# Altium schematic symbol library OpAmp比较器.SchLib: 515 symbols (part 4 of 5)
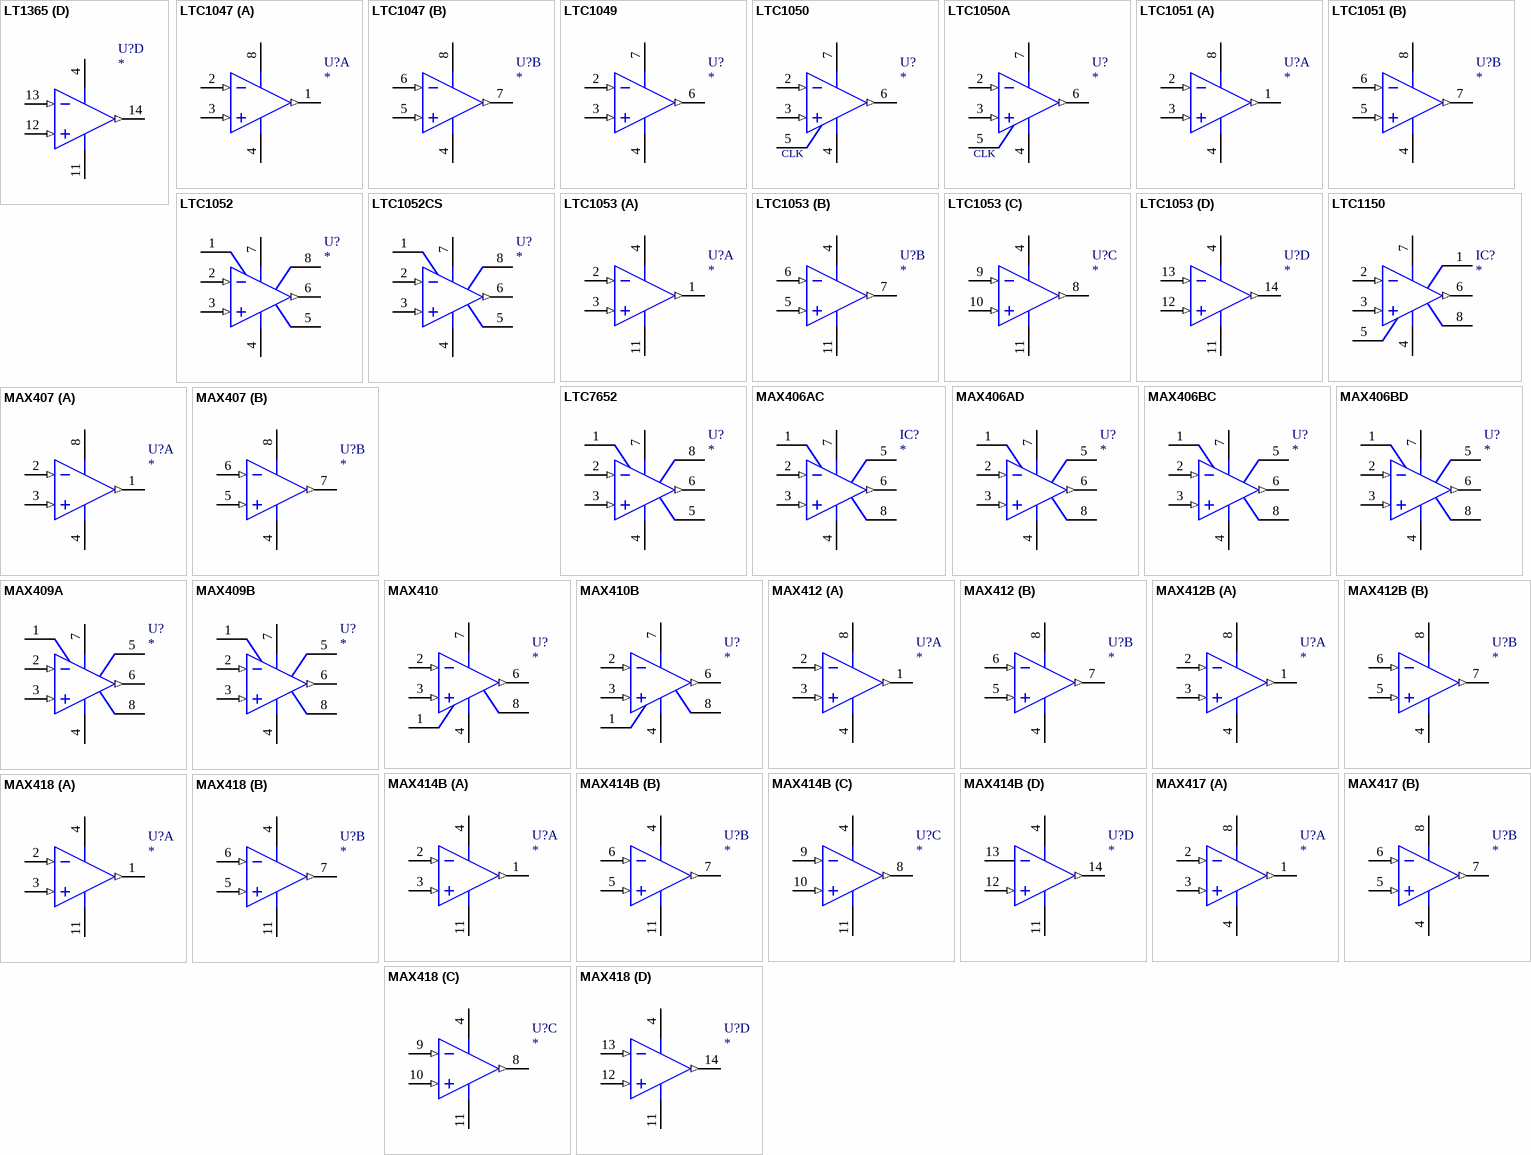
[diagram p26: symbols LT1365 to MAX418]

## LTC1053
designator U?
Quad Precision Chopper Stabilized Operational Amplifiers with Internal Capacitors; 1.库作者: 冰凌猫; 2.库版本: v2.0 (2021.03.30); 3.交流分享: Q群514746572,开源更新,欢迎一起交流学习PCB设计; 4.作者声明: 旨为整合最全库集,欢迎转载,禁止商用！-冰凌猫; 5.备注说明: 该库已二次整合过网上各热销库,基本最全,无需重复搜购安装
simulation model LTC1053 (SUBCKT)
part A pins: 1 OUT A (out), 2 -IN A (in), 3 +IN A (in), 4 V+ (power), 11 V- (power)
part B pins: 4 V+ (power), 5 +IN B (in), 6 -IN B (in), 7 OUT B (out), 11 V- (power)
part C pins: 4 V+ (power), 8 OUT C (out), 9 -IN C (in), 10 +IN C (in), 11 V- (power)
part D pins: 4 V+ (power), 11 V- (power), 12 +IN D (in), 13 -IN D (in), 14 OUT D (out)

## LTC1150
designator IC?
?5V Chopper Stabilized Operational Amplifier with Internal Capacitors; 1.库作者: 冰凌猫; 2.库版本: v2.0 (2021.03.30); 3.交流分享: Q群514746572,开源更新,欢迎一起交流学习PCB设计; 4.作者声明: 旨为整合最全库集,欢迎转载,禁止商用！-冰凌猫; 5.备注说明: 该库已二次整合过网上各热销库,基本最全,无需重复搜购安装
footprint DIP-8
simulation model LTC1150 (SUBCKT)
pins: 1 SUPPLY, 2 -IN (in), 3 +IN (in), 4 V- (power), 5 EXT CLOCK IN, 6 OUT (out), 7 V+ (power), 8 CLOCK OUT

## LTC7652
designator U?
Chopper-Stabilized Operational Amplifier (CSOA ); 1.库作者: 冰凌猫; 2.库版本: v2.0 (2021.03.30); 3.交流分享: Q群514746572,开源更新,欢迎一起交流学习PCB设计; 4.作者声明: 旨为整合最全库集,欢迎转载,禁止商用！-冰凌猫; 5.备注说明: 该库已二次整合过网上各热销库,基本最全,无需重复搜购安装
simulation model LTC7652 (SUBCKT)
pins: 1 EXTA, 2 -IN (in), 3 +IN (in), 4 V- (power), 5 OUTPUT CLAMP, 6 OUT (out), 7 V+ (power), 8 EXTB

## MAX406AC
designator IC?
1.2 Micro A Max, Single-Supply Op Amp; 1.库作者: 冰凌猫; 2.库版本: v2.0 (2021.03.30); 3.交流分享: Q群514746572,开源更新,欢迎一起交流学习PCB设计; 4.作者声明: 旨为整合最全库集,欢迎转载,禁止商用！-冰凌猫; 5.备注说明: 该库已二次整合过网上各热销库,基本最全,无需重复搜购安装
footprint DIP-8
simulation model MAX406AC (SUBCKT)
pins: 1 NULL, 2 IN- (in), 3 IN+ (in), 4 VEE (power), 5 NULL, 6 OUT (out), 7 VCC (power), 8 BW

## MAX406AD
designator U?
1.2 Micro A Max, Single-Supply Op Amp; 1.库作者: 冰凌猫; 2.库版本: v2.0 (2021.03.30); 3.交流分享: Q群514746572,开源更新,欢迎一起交流学习PCB设计; 4.作者声明: 旨为整合最全库集,欢迎转载,禁止商用！-冰凌猫; 5.备注说明: 该库已二次整合过网上各热销库,基本最全,无需重复搜购安装
simulation model MAX406AD (SUBCKT)
pins: 1 NULL, 2 IN- (in), 3 IN+ (in), 4 VEE (power), 5 NULL, 6 OUT (out), 7 VCC (power), 8 BW

## MAX406BC
designator U?
1.2 Micro A Max, Single-Supply Op Amp; 1.库作者: 冰凌猫; 2.库版本: v2.0 (2021.03.30); 3.交流分享: Q群514746572,开源更新,欢迎一起交流学习PCB设计; 4.作者声明: 旨为整合最全库集,欢迎转载,禁止商用！-冰凌猫; 5.备注说明: 该库已二次整合过网上各热销库,基本最全,无需重复搜购安装
simulation model MAX406BC (SUBCKT)
pins: 1 NULL, 2 IN- (in), 3 IN+ (in), 4 VEE (power), 5 NULL, 6 OUT (out), 7 VCC (power), 8 BW

## MAX406BD
designator U?
1.2 Micro A Max, Single-Supply Op Amp; 1.库作者: 冰凌猫; 2.库版本: v2.0 (2021.03.30); 3.交流分享: Q群514746572,开源更新,欢迎一起交流学习PCB设计; 4.作者声明: 旨为整合最全库集,欢迎转载,禁止商用！-冰凌猫; 5.备注说明: 该库已二次整合过网上各热销库,基本最全,无需重复搜购安装
simulation model MAX406BD (SUBCKT)
pins: 1 NULL, 2 IN- (in), 3 IN+ (in), 4 VEE (power), 5 NULL, 6 OUT (out), 7 VCC (power), 8 BW

## MAX407
designator U?
1.2 Micro A Max, Dual Single-Supply Op Amp; 1.库作者: 冰凌猫; 2.库版本: v2.0 (2021.03.30); 3.交流分享: Q群514746572,开源更新,欢迎一起交流学习PCB设计; 4.作者声明: 旨为整合最全库集,欢迎转载,禁止商用！-冰凌猫; 5.备注说明: 该库已二次整合过网上各热销库,基本最全,无需重复搜购安装
simulation model MAX407 (SUBCKT)
part A pins: 1 OUT (out), 2 IN- (in), 3 IN+ (in), 4 VEE (power), 8 VCC (power)
part B pins: 4 VEE (power), 5 IN+ (in), 6 IN- (in), 7 OUT (out), 8 VCC (power)

## MAX409A
designator U?
1.2 Micro A Max, Single-Supply Op Amp; 1.库作者: 冰凌猫; 2.库版本: v2.0 (2021.03.30); 3.交流分享: Q群514746572,开源更新,欢迎一起交流学习PCB设计; 4.作者声明: 旨为整合最全库集,欢迎转载,禁止商用！-冰凌猫; 5.备注说明: 该库已二次整合过网上各热销库,基本最全,无需重复搜购安装
simulation model MAX409A (SUBCKT)
pins: 1 NULL, 2 IN- (in), 3 IN+ (in), 4 VEE (power), 5 NULL, 6 OUT (out), 7 VCC (power), 8 DNU

## MAX409B
designator U?
1.2 Micro A Max, Single-Supply Op Amp; 1.库作者: 冰凌猫; 2.库版本: v2.0 (2021.03.30); 3.交流分享: Q群514746572,开源更新,欢迎一起交流学习PCB设计; 4.作者声明: 旨为整合最全库集,欢迎转载,禁止商用！-冰凌猫; 5.备注说明: 该库已二次整合过网上各热销库,基本最全,无需重复搜购安装
simulation model MAX409B (SUBCKT)
pins: 1 NULL, 2 IN- (in), 3 IN+ (in), 4 VEE (power), 5 NULL, 6 OUT (out), 7 VCC (power), 8 DNU

## MAX410
designator U?
Voltage-Feedback Operational Amplifier; 1.库作者: 冰凌猫; 2.库版本: v2.0 (2021.03.30); 3.交流分享: Q群514746572,开源更新,欢迎一起交流学习PCB设计; 4.作者声明: 旨为整合最全库集,欢迎转载,禁止商用！-冰凌猫; 5.备注说明: 该库已二次整合过网上各热销库,基本最全,无需重复搜购安装
simulation model MAX410 (SUBCKT)
pins: 1 NULL, 2 -IN (in), 3 +IN (in), 4 V- (power), 6 OUT (out), 7 V+ (power), 8 NULL

## MAX410B
designator U?
Voltage-Feedback Operational Amplifier; 1.库作者: 冰凌猫; 2.库版本: v2.0 (2021.03.30); 3.交流分享: Q群514746572,开源更新,欢迎一起交流学习PCB设计; 4.作者声明: 旨为整合最全库集,欢迎转载,禁止商用！-冰凌猫; 5.备注说明: 该库已二次整合过网上各热销库,基本最全,无需重复搜购安装
simulation model MAX410B (SUBCKT)
pins: 1 NULL, 2 -IN (in), 3 +IN (in), 4 V- (power), 6 OUT (out), 7 V+ (power), 8 NULL

## MAX412
designator U?
Voltage-Feedback Operational Amplifier; 1.库作者: 冰凌猫; 2.库版本: v2.0 (2021.03.30); 3.交流分享: Q群514746572,开源更新,欢迎一起交流学习PCB设计; 4.作者声明: 旨为整合最全库集,欢迎转载,禁止商用！-冰凌猫; 5.备注说明: 该库已二次整合过网上各热销库,基本最全,无需重复搜购安装
simulation model MAX412 (SUBCKT)
part A pins: 1 OUT 1 (out), 2 -IN1 (in), 3 +IN1 (in), 4 V- (power), 8 V+ (power)
part B pins: 4 V- (power), 5 +IN 2 (in), 6 -IN 2 (in), 7 OUT 2 (out), 8 V+ (power)

## MAX412B
designator U?
Voltage-Feedback Operational Amplifier; 1.库作者: 冰凌猫; 2.库版本: v2.0 (2021.03.30); 3.交流分享: Q群514746572,开源更新,欢迎一起交流学习PCB设计; 4.作者声明: 旨为整合最全库集,欢迎转载,禁止商用！-冰凌猫; 5.备注说明: 该库已二次整合过网上各热销库,基本最全,无需重复搜购安装
simulation model MAX412B (SUBCKT)
part A pins: 1 OUT 1 (out), 2 -IN1 (in), 3 +IN1 (in), 4 V- (power), 8 V+ (power)
part B pins: 4 V- (power), 5 +IN 2 (in), 6 -IN 2 (in), 7 OUT 2 (out), 8 V+ (power)

## MAX414B
designator U?
Voltage-Feedback Operational Amplifier; 1.库作者: 冰凌猫; 2.库版本: v2.0 (2021.03.30); 3.交流分享: Q群514746572,开源更新,欢迎一起交流学习PCB设计; 4.作者声明: 旨为整合最全库集,欢迎转载,禁止商用！-冰凌猫; 5.备注说明: 该库已二次整合过网上各热销库,基本最全,无需重复搜购安装
simulation model MAX414B (SUBCKT)
part A pins: 1 OUT (out), 2 -IN 1 (in), 3 +IN 1 (in), 4 V+ (power), 11 V- (power)
part B pins: 4 V+ (power), 5 +IN 2 (in), 6 -IN 2 (in), 7 OUT 2 (out), 11 V- (power)
part C pins: 4 V+ (power), 8 OUT 3 (out), 9 -IN 3 (in), 10 +IN 3 (in), 11 V- (power)
part D pins: 4 V+ (power), 11 V- (power), 12 +IN 4 (in), 13 -IN 4, 14 OUT 4 (out)

## MAX417
designator U?
Voltage-Feedback Operational Amplifier; 1.库作者: 冰凌猫; 2.库版本: v2.0 (2021.03.30); 3.交流分享: Q群514746572,开源更新,欢迎一起交流学习PCB设计; 4.作者声明: 旨为整合最全库集,欢迎转载,禁止商用！-冰凌猫; 5.备注说明: 该库已二次整合过网上各热销库,基本最全,无需重复搜购安装
simulation model MAX417 (SUBCKT)
part A pins: 1 OUT A (out), 2 -IN A (in), 3 +IN A (in), 4 V- (power), 8 V+ (power)
part B pins: 4 V- (power), 5 +IN B (in), 6 -IN B (in), 7 OUT B (out), 8 V+ (power)

## MAX418
designator U?
1.2uA Max Quad, Single-Supply Op Amp; 1.库作者: 冰凌猫; 2.库版本: v2.0 (2021.03.30); 3.交流分享: Q群514746572,开源更新,欢迎一起交流学习PCB设计; 4.作者声明: 旨为整合最全库集,欢迎转载,禁止商用！-冰凌猫; 5.备注说明: 该库已二次整合过网上各热销库,基本最全,无需重复搜购安装
simulation model MAX418 (SUBCKT)
part A pins: 1 OUT (out), 2 IN- (in), 3 IN+ (in), 4 VCC (power), 11 VEE (power)
part B pins: 4 VCC (power), 5 IN+ (in), 6 IN- (in), 7 OUT (out), 11 VEE (power)
part C pins: 4 VCC (power), 8 OUT (out), 9 IN- (in), 10 IN+ (in), 11 VEE (power)
part D pins: 4 VCC (power), 11 VEE (power), 12 IN+ (in), 13 IN- (in), 14 OUT (out)

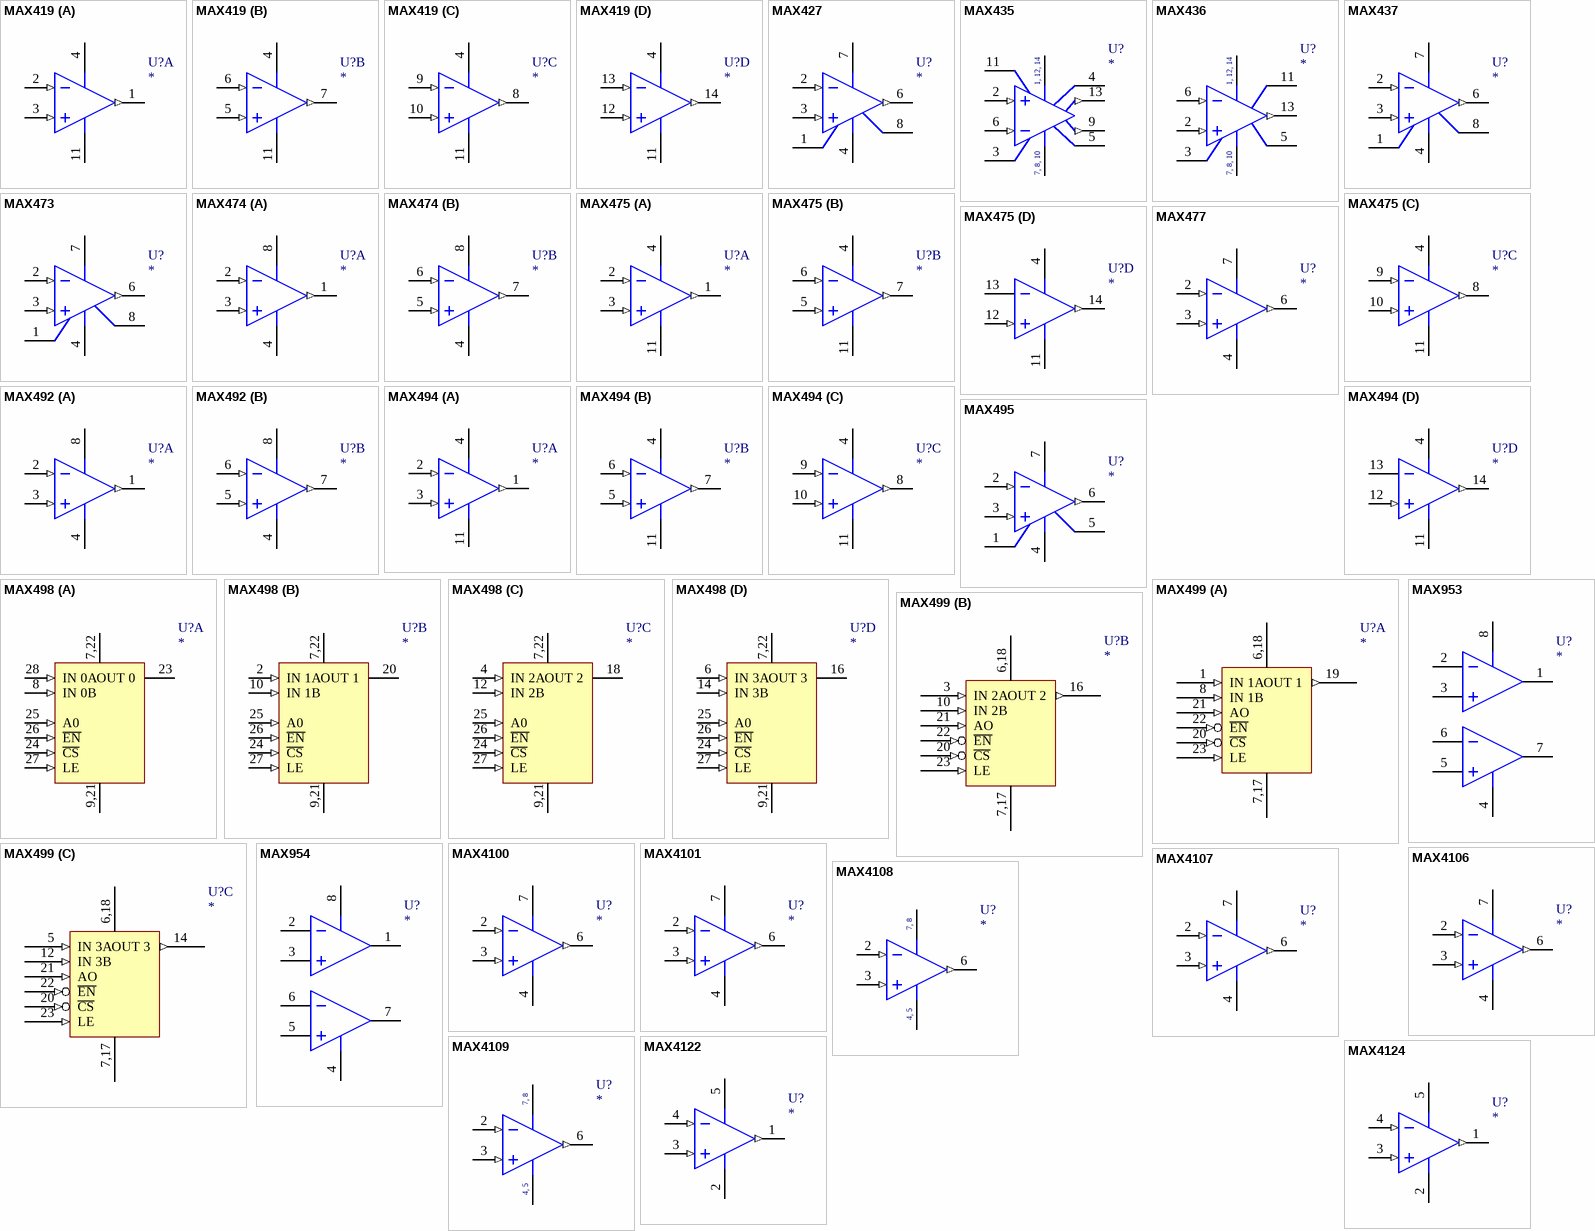
[diagram p16: symbols MAX419 to MAX4124]

## MAX419
designator U?
1.2uA Max Quad, Single-Supply Op Amp; 1.库作者: 冰凌猫; 2.库版本: v2.0 (2021.03.30); 3.交流分享: Q群514746572,开源更新,欢迎一起交流学习PCB设计; 4.作者声明: 旨为整合最全库集,欢迎转载,禁止商用！-冰凌猫; 5.备注说明: 该库已二次整合过网上各热销库,基本最全,无需重复搜购安装
simulation model MAX419 (SUBCKT)
part A pins: 1 OUT (out), 2 IN- (in), 3 IN+ (in), 4 VCC (power), 11 VEE (power)
part B pins: 4 VCC (power), 5 IN+ (in), 6 IN- (in), 7 OUT (out), 11 VEE (power)
part C pins: 4 VCC (power), 8 OUT (out), 9 IN- (in), 10 IN+ (in), 11 VEE (power)
part D pins: 4 VCC (power), 11 VEE (power), 12 IN+ (in), 13 IN- (in), 14 OUT (out)

## MAX427
designator U?
Voltage-Feedback Operational Amplifier; 1.库作者: 冰凌猫; 2.库版本: v2.0 (2021.03.30); 3.交流分享: Q群514746572,开源更新,欢迎一起交流学习PCB设计; 4.作者声明: 旨为整合最全库集,欢迎转载,禁止商用！-冰凌猫; 5.备注说明: 该库已二次整合过网上各热销库,基本最全,无需重复搜购安装
simulation model MAX427 (SUBCKT)
pins: 1 BAL, 2 -IN (in), 3 +IN (in), 4 V- (power), 6 OUT (out), 7 V+ (power), 8 BAL

## MAX435
designator U?
Wideband Transconductance Amplifier; 1.库作者: 冰凌猫; 2.库版本: v2.0 (2021.03.30); 3.交流分享: Q群514746572,开源更新,欢迎一起交流学习PCB设计; 4.作者声明: 旨为整合最全库集,欢迎转载,禁止商用！-冰凌猫; 5.备注说明: 该库已二次整合过网上各热销库,基本最全,无需重复搜购安装
simulation model MAX435 (SUBCKT)
pins: 1 VCC (power), 2 IN+ (in), 3 Z+, 4 DNU, 5 Z-, 6 IN- (in), 7 VEE (power), 8 VEE (power), 9 IOUT- (out), 10 VEE (power), 11 ISET, 12 VCC (power), 13 IOUT+ (out), 14 VCC (power)
text: 1, 12, 14; 7, 8, 10

## MAX436
designator U?
Wideband Transconductance Amplifier; 0.0_备注: Do not connected to Pins 4 and 9; 1.库作者: 冰凌猫; 2.库版本: v2.0 (2021.03.30); 3.交流分享: Q群514746572,开源更新,欢迎一起交流学习PCB设计; 4.作者声明: 旨为整合最全库集,欢迎转载,禁止商用！-冰凌猫; 5.备注说明: 该库已二次整合过网上各热销库,基本最全,无需重复搜购安装
simulation model MAX436 (SUBCKT)
pins: 1 VCC (power), 2 IN+ (in), 3 Z+, 5 Z-, 6 IN- (in), 7 VEE (power), 8 VEE (power), 10 VEE (power), 11 ISET, 12 VCC (power), 13 IOUT (out), 14 VCC (power)
text: 1, 12, 14; 7, 8, 10

## MAX437
designator U?
Low Noise, High Precision Operational Amplifier; 1.库作者: 冰凌猫; 2.库版本: v2.0 (2021.03.30); 3.交流分享: Q群514746572,开源更新,欢迎一起交流学习PCB设计; 4.作者声明: 旨为整合最全库集,欢迎转载,禁止商用！-冰凌猫; 5.备注说明: 该库已二次整合过网上各热销库,基本最全,无需重复搜购安装
simulation model MAX437 (SUBCKT)
pins: 1 BAL, 2 -IN (in), 3 +IN (in), 4 V- (power), 6 OUT (out), 7 V+ (power), 8 BAL

## MAX473
designator U?
Low Noise, High Precision Operational Amplifier; 1.库作者: 冰凌猫; 2.库版本: v2.0 (2021.03.30); 3.交流分享: Q群514746572,开源更新,欢迎一起交流学习PCB设计; 4.作者声明: 旨为整合最全库集,欢迎转载,禁止商用！-冰凌猫; 5.备注说明: 该库已二次整合过网上各热销库,基本最全,无需重复搜购安装
simulation model MAX473 (SUBCKT)
pins: 1 NULL, 2 -IN (in), 3 +IN (in), 4 V- (power), 6 OUT (out), 7 V+ (power), 8 NULL

## MAX474
designator U?
Dual 10MHz, 15V/us, Single Supply Operational Amplifier; 1.库作者: 冰凌猫; 2.库版本: v2.0 (2021.03.30); 3.交流分享: Q群514746572,开源更新,欢迎一起交流学习PCB设计; 4.作者声明: 旨为整合最全库集,欢迎转载,禁止商用！-冰凌猫; 5.备注说明: 该库已二次整合过网上各热销库,基本最全,无需重复搜购安装
simulation model MAX474 (SUBCKT)
part A pins: 1 OUT A (out), 2 -IN A (in), 3 +IN A (in), 4 V- (power), 8 V+ (power)
part B pins: 4 V- (power), 5 +IN B (in), 6 -IN B (in), 7 OUT B (out), 8 V+ (power)

## MAX475
designator U?
Quad 10MHz, 15V/us, Single Supply Operational Amplifier; 1.库作者: 冰凌猫; 2.库版本: v2.0 (2021.03.30); 3.交流分享: Q群514746572,开源更新,欢迎一起交流学习PCB设计; 4.作者声明: 旨为整合最全库集,欢迎转载,禁止商用！-冰凌猫; 5.备注说明: 该库已二次整合过网上各热销库,基本最全,无需重复搜购安装
simulation model MAX475 (SUBCKT)
part A pins: 1 OUT (out), 2 -IN 1 (in), 3 +IN 1 (in), 4 V+ (power), 11 V- (power)
part B pins: 4 V+ (power), 5 +IN 2 (in), 6 -IN 2 (in), 7 OUT 2 (out), 11 V- (power)
part C pins: 4 V+ (power), 8 OUT 3 (out), 9 -IN 3 (in), 10 +IN 3 (in), 11 V- (power)
part D pins: 4 V+ (power), 11 V- (power), 12 +IN 4 (in), 13 -IN 4, 14 OUT 4 (out)

## MAX477
designator U?
300MHZ High-Speed Op Amp; 0.0_备注: Pins 1, 5, and 8 are not connected; 1.库作者: 冰凌猫; 2.库版本: v2.0 (2021.03.30); 3.交流分享: Q群514746572,开源更新,欢迎一起交流学习PCB设计; 4.作者声明: 旨为整合最全库集,欢迎转载,禁止商用！-冰凌猫; 5.备注说明: 该库已二次整合过网上各热销库,基本最全,无需重复搜购安装
simulation model MAX477 (SUBCKT)
pins: 2 IN- (in), 3 IN+ (in), 4 VEE (power), 6 OUT (out), 7 VCC (power)

## MAX492
designator U?
Dual Voltage-Feedback Operational Amplifier; 1.库作者: 冰凌猫; 2.库版本: v2.0 (2021.03.30); 3.交流分享: Q群514746572,开源更新,欢迎一起交流学习PCB设计; 4.作者声明: 旨为整合最全库集,欢迎转载,禁止商用！-冰凌猫; 5.备注说明: 该库已二次整合过网上各热销库,基本最全,无需重复搜购安装
simulation model MAX492 (SUBCKT)
part A pins: 1 OUT A (out), 2 -IN A (in), 3 +IN A (in), 4 V- (power), 8 V+ (power)
part B pins: 4 V- (power), 5 +IN B (in), 6 -IN B (in), 7 OUT B (out), 8 V+ (power)

## MAX494
designator U?
Quad Voltage-Feedback Operational Amplifier; 1.库作者: 冰凌猫; 2.库版本: v2.0 (2021.03.30); 3.交流分享: Q群514746572,开源更新,欢迎一起交流学习PCB设计; 4.作者声明: 旨为整合最全库集,欢迎转载,禁止商用！-冰凌猫; 5.备注说明: 该库已二次整合过网上各热销库,基本最全,无需重复搜购安装
simulation model MAX494 (SUBCKT)
part A pins: 1 OUT (out), 2 -IN 1 (in), 3 +IN 1 (in), 4 V+ (power), 11 V- (power)
part B pins: 4 V+ (power), 5 +IN 2 (in), 6 -IN 2 (in), 7 OUT 2 (out), 11 V- (power)
part C pins: 4 V+ (power), 8 OUT 3 (out), 9 -IN 3 (in), 10 +IN 3 (in), 11 V- (power)
part D pins: 4 V+ (power), 11 V- (power), 12 +IN 4 (in), 13 -IN 4, 14 OUT 4 (out)

## MAX495
designator U?
Voltage-Feedback Operational Amplifier; 1.库作者: 冰凌猫; 2.库版本: v2.0 (2021.03.30); 3.交流分享: Q群514746572,开源更新,欢迎一起交流学习PCB设计; 4.作者声明: 旨为整合最全库集,欢迎转载,禁止商用！-冰凌猫; 5.备注说明: 该库已二次整合过网上各热销库,基本最全,无需重复搜购安装
simulation model MAX495 (SUBCKT)
pins: 1 NULL, 2 -IN (in), 3 +IN (in), 4 V- (power), 5 NULL, 6 OUT (out), 7 V+ (power)

## MAX498
designator U?
Quad SPDT RGB Switches with 250 MHz Buffer Amplifier; 1.库作者: 冰凌猫; 2.库版本: v2.0 (2021.03.30); 3.交流分享: Q群514746572,开源更新,欢迎一起交流学习PCB设计; 4.作者声明: 旨为整合最全库集,欢迎转载,禁止商用！-冰凌猫; 5.备注说明: 该库已二次整合过网上各热销库,基本最全,无需重复搜购安装
simulation model MAX498 (SUBCKT)
part A pins: 1 GND (power) hidden to GND, 3 GND (power) hidden to GND, 5 GND (power) hidden to GND, 7 VCC (power), 8 IN 0B (in), 9 VEE (power), 11 GND (power) hidden to GND, 13 GND (power) hidden to GND, 19 GND (power) hidden to GND, 21 VEE (power), 22 VCC (power), 23 OUT 0 (hiz), 24 ~{CS} (in), 25 A0 (in), 26 ~{EN} (in), 27 LE (in), 28 IN 0A (in)
part B pins: 1 GND (power) hidden to GND, 2 IN 1A (in), 3 GND (power) hidden to GND, 5 GND (power) hidden to GND, 7 VCC (power), 9 VEE (power), 10 IN 1B (in), 11 GND (power) hidden to GND, 13 GND (power) hidden to GND, 19 GND (power) hidden to GND, 20 OUT 1 (hiz), 21 VEE (power), 22 VCC (power), 24 ~{CS} (in), 25 A0 (in), 26 ~{EN} (in), 27 LE (in)
part C pins: 1 GND (power) hidden to GND, 3 GND (power) hidden to GND, 4 IN 2A (in), 5 GND (power) hidden to GND, 7 VCC (power), 9 VEE (power), 11 GND (power) hidden to GND, 12 IN 2B (in), 13 GND (power) hidden to GND, 18 OUT 2 (hiz), 19 GND (power) hidden to GND, 21 VEE (power), 22 VCC (power), 24 ~{CS} (in), 25 A0 (in), 26 ~{EN} (in), 27 LE (in)
part D pins: 1 GND (power) hidden to GND, 3 GND (power) hidden to GND, 5 GND (power) hidden to GND, 6 IN 3A (in), 7 VCC (power), 9 VEE (power), 11 GND (power) hidden to GND, 13 GND (power) hidden to GND, 14 IN 3B (in), 16 OUT 3 (hiz), 19 GND (power) hidden to GND, 21 VEE (power), 22 VCC (power), 24 ~{CS} (in), 25 A0 (in), 26 ~{EN} (in), 27 LE (in)
part A text: 7,22; 9,21
part B text: 7,22; 9,21
part C text: 7,22; 9,21
part D text: 7,22; 9,21

## MAX499
designator U?
Triple SPDT RGB Switches with 250 MHz Video Buffer Amplifier; 1.库作者: 冰凌猫; 2.库版本: v2.0 (2021.03.30); 3.交流分享: Q群514746572,开源更新,欢迎一起交流学习PCB设计; 4.作者声明: 旨为整合最全库集,欢迎转载,禁止商用！-冰凌猫; 5.备注说明: 该库已二次整合过网上各热销库,基本最全,无需重复搜购安装
simulation model MAX499 (SUBCKT)
part A pins: 1 IN 1A (in), 2 GND (power) hidden to GND, 4 GND (power) hidden to GND, 6 VCC (power), 7 VEE (power), 8 IN 1B (in), 9 GND (power) hidden to GND, 11 GND (power) hidden to GND, 17 VEE (power), 18 VCC (power), 19 OUT 1 (out), 20 ~{CS} (in), 21 AO (in), 22 ~{EN} (in), 23 LE (in), 24 GND (power) hidden to GND
part B pins: 2 GND (power) hidden to GND, 3 IN 2A (in), 4 GND (power) hidden to GND, 6 VCC (power), 7 VEE (power), 9 GND (power) hidden to GND, 10 IN 2B (in), 11 GND (power) hidden to GND, 16 OUT 2 (out), 17 VEE (power), 18 VCC (power), 20 ~{CS} (in), 21 AO (in), 22 ~{EN} (in), 23 LE (in), 24 GND (power) hidden to GND
part C pins: 2 GND (power) hidden to GND, 4 GND (power) hidden to GND, 5 IN 3A (in), 6 VCC (power), 7 VEE (power), 9 GND (power) hidden to GND, 11 GND (power) hidden to GND, 12 IN 3B (in), 14 OUT 3 (out), 17 VEE (power), 18 VCC (power), 20 ~{CS} (in), 21 AO (in), 22 ~{EN} (in), 23 LE (in), 24 GND (power) hidden to GND
part A text: 6,18; 7,17
part B text: 6,18; 7,17
part C text: 6,18; 7,17

## MAX953
designator U?
Voltage-Feedback Operational Amplifier; 1.库作者: 冰凌猫; 2.库版本: v2.0 (2021.03.30); 3.交流分享: Q群514746572,开源更新,欢迎一起交流学习PCB设计; 4.作者声明: 旨为整合最全库集,欢迎转载,禁止商用！-冰凌猫; 5.备注说明: 该库已二次整合过网上各热销库,基本最全,无需重复搜购安装
simulation model MAX953 (SUBCKT)
pins: 1 Ampout, 2 Ampin-, 3 Ampin+, 4 V- (power), 5 Compin+, 6 Compin-, 7 Compout, 8 V+ (power)

## MAX954
designator U?
Voltage-Feedback Operational Amplifier; 1.库作者: 冰凌猫; 2.库版本: v2.0 (2021.03.30); 3.交流分享: Q群514746572,开源更新,欢迎一起交流学习PCB设计; 4.作者声明: 旨为整合最全库集,欢迎转载,禁止商用！-冰凌猫; 5.备注说明: 该库已二次整合过网上各热销库,基本最全,无需重复搜购安装
simulation model MAX954 (SUBCKT)
pins: 1 Ampout, 2 Ampin-, 3 Ampin+, 4 V- (power), 5 Compin+, 6 Compin-, 7 Compout, 8 V+ (power)

## MAX4100
designator U?
Voltage-Feedback Operational Amplifier; 1.库作者: 冰凌猫; 2.库版本: v2.0 (2021.03.30); 3.交流分享: Q群514746572,开源更新,欢迎一起交流学习PCB设计; 4.作者声明: 旨为整合最全库集,欢迎转载,禁止商用！-冰凌猫; 5.备注说明: 该库已二次整合过网上各热销库,基本最全,无需重复搜购安装
simulation model MAX4100 (SUBCKT)
pins: 2 -IN (in), 3 +IN (in), 4 V- (power), 6 OUT (out), 7 V+ (power)

## MAX4101
designator U?
Voltage-Feedback Operational Amplifier; 1.库作者: 冰凌猫; 2.库版本: v2.0 (2021.03.30); 3.交流分享: Q群514746572,开源更新,欢迎一起交流学习PCB设计; 4.作者声明: 旨为整合最全库集,欢迎转载,禁止商用！-冰凌猫; 5.备注说明: 该库已二次整合过网上各热销库,基本最全,无需重复搜购安装
simulation model MAX4101 (SUBCKT)
pins: 2 -IN (in), 3 +IN (in), 4 V- (power), 6 OUT (out), 7 V+ (power)

## MAX4106
designator U?
350MHz, Ultra-Low-Noise Op Amp; 0.0_备注: Pins 1, 5, and 8 are not connected; 1.库作者: 冰凌猫; 2.库版本: v2.0 (2021.03.30); 3.交流分享: Q群514746572,开源更新,欢迎一起交流学习PCB设计; 4.作者声明: 旨为整合最全库集,欢迎转载,禁止商用！-冰凌猫; 5.备注说明: 该库已二次整合过网上各热销库,基本最全,无需重复搜购安装
simulation model MAX4106 (SUBCKT)
pins: 2 IN- (in), 3 IN+ (in), 4 VEE (power), 6 OUT (out), 7 VCC (power)

## MAX4107
designator U?
350MHz, Ultra-Low-Noise Op Amp; 0.0_备注: Pins 1, 5, and 8 are not connected; 1.库作者: 冰凌猫; 2.库版本: v2.0 (2021.03.30); 3.交流分享: Q群514746572,开源更新,欢迎一起交流学习PCB设计; 4.作者声明: 旨为整合最全库集,欢迎转载,禁止商用！-冰凌猫; 5.备注说明: 该库已二次整合过网上各热销库,基本最全,无需重复搜购安装
simulation model MAX4107 (SUBCKT)
pins: 2 IN- (in), 3 IN+ (in), 4 VEE (power), 6 OUT (out), 7 VCC (power)

## MAX4108
designator U?
400MHz, Ultra-Low-Distortion Op Amp; 0.0_备注: Pin 1 is not connected; 1.库作者: 冰凌猫; 2.库版本: v2.0 (2021.03.30); 3.交流分享: Q群514746572,开源更新,欢迎一起交流学习PCB设计; 4.作者声明: 旨为整合最全库集,欢迎转载,禁止商用！-冰凌猫; 5.备注说明: 该库已二次整合过网上各热销库,基本最全,无需重复搜购安装
simulation model MAX4108 (SUBCKT)
pins: 2 IN- (in), 3 IN+ (in), 4 VEE (power), 5 VEE (power), 6 OUT (out), 7 VCC (power), 8 VCC (power)
text: 7, 8; 4, 5

## MAX4109
designator U?
400MHz, Ultra-Low-Distortion Op Amp; 0.0_备注: Pin 1 is not connected; 1.库作者: 冰凌猫; 2.库版本: v2.0 (2021.03.30); 3.交流分享: Q群514746572,开源更新,欢迎一起交流学习PCB设计; 4.作者声明: 旨为整合最全库集,欢迎转载,禁止商用！-冰凌猫; 5.备注说明: 该库已二次整合过网上各热销库,基本最全,无需重复搜购安装
simulation model MAX4109 (SUBCKT)
pins: 2 IN- (in), 3 IN+ (in), 4 VEE (power), 5 VEE (power), 6 OUT (out), 7 VCC (power), 8 VCC (power)
text: 7, 8; 4, 5

## MAX4122
designator U?
Wide-Bandwidth, Low-Power, Single-Supply Rail-to-Rail I/O Op Amp; 1.库作者: 冰凌猫; 2.库版本: v2.0 (2021.03.30); 3.交流分享: Q群514746572,开源更新,欢迎一起交流学习PCB设计; 4.作者声明: 旨为整合最全库集,欢迎转载,禁止商用！-冰凌猫; 5.备注说明: 该库已二次整合过网上各热销库,基本最全,无需重复搜购安装
simulation model MAX4122 (SUBCKT)
pins: 1 OUT (out), 2 VEE (power), 3 IN+ (in), 4 IN- (in), 5 VCC (power)

## MAX4124
designator U?
Wide-Bandwidth, Low-Power, Single-Supply Rail-to-Rail I/O Op Amp; 1.库作者: 冰凌猫; 2.库版本: v2.0 (2021.03.30); 3.交流分享: Q群514746572,开源更新,欢迎一起交流学习PCB设计; 4.作者声明: 旨为整合最全库集,欢迎转载,禁止商用！-冰凌猫; 5.备注说明: 该库已二次整合过网上各热销库,基本最全,无需重复搜购安装
simulation model MAX4124 (SUBCKT)
pins: 1 OUT (out), 2 VEE (power), 3 IN+ (in), 4 IN- (in), 5 VCC (power)

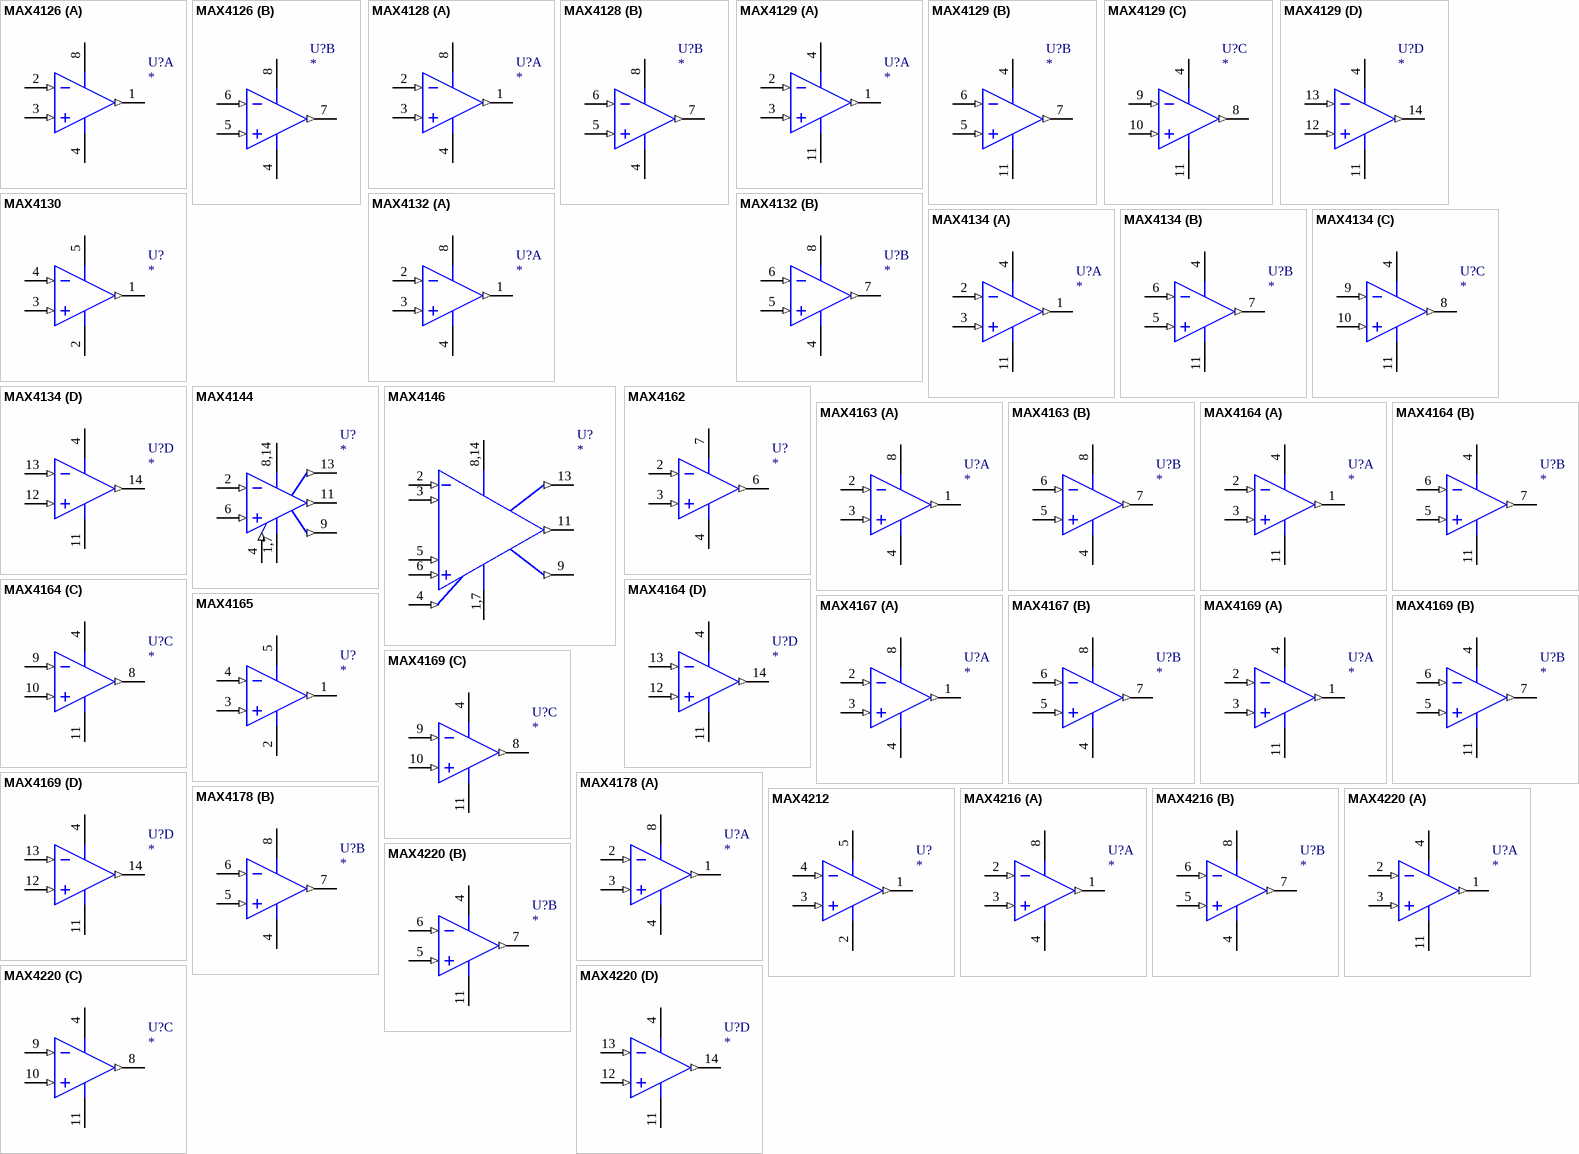
[diagram p17: symbols MAX4126 to MAX4220]

## MAX4126
designator U?
Dual Wide-Bandwidth, Low-Power, Single-Supply Rail-to-Rail I/O Op Amp; 1.库作者: 冰凌猫; 2.库版本: v2.0 (2021.03.30); 3.交流分享: Q群514746572,开源更新,欢迎一起交流学习PCB设计; 4.作者声明: 旨为整合最全库集,欢迎转载,禁止商用！-冰凌猫; 5.备注说明: 该库已二次整合过网上各热销库,基本最全,无需重复搜购安装
simulation model MAX4126 (SUBCKT)
part A pins: 1 OUT (out), 2 IN- (in), 3 IN+ (in), 4 VEE (power), 8 VCC (power)
part B pins: 4 VEE (power), 5 IN+ (in), 6 IN- (in), 7 OUT (out), 8 VCC (power)

## MAX4128
designator U?
Dual Wide-Bandwidth, Low-Power, Single-Supply Rail-to-Rail I/O Op Amp; 1.库作者: 冰凌猫; 2.库版本: v2.0 (2021.03.30); 3.交流分享: Q群514746572,开源更新,欢迎一起交流学习PCB设计; 4.作者声明: 旨为整合最全库集,欢迎转载,禁止商用！-冰凌猫; 5.备注说明: 该库已二次整合过网上各热销库,基本最全,无需重复搜购安装
simulation model MAX4128 (SUBCKT)
part A pins: 1 OUT (out), 2 IN- (in), 3 IN+ (in), 4 VEE (power), 8 VCC (power)
part B pins: 4 VEE (power), 5 IN+ (in), 6 IN- (in), 7 OUT (out), 8 VCC (power)

## MAX4129
designator U?
Quad Wide-Bandwidth, Low-Power, Single-Supply Rail-to-Rail I/O Op Amp; 1.库作者: 冰凌猫; 2.库版本: v2.0 (2021.03.30); 3.交流分享: Q群514746572,开源更新,欢迎一起交流学习PCB设计; 4.作者声明: 旨为整合最全库集,欢迎转载,禁止商用！-冰凌猫; 5.备注说明: 该库已二次整合过网上各热销库,基本最全,无需重复搜购安装
simulation model MAX4129 (SUBCKT)
part A pins: 1 OUT (out), 2 IN- (in), 3 IN+ (in), 4 VCC (power), 11 VEE (power)
part B pins: 4 VCC (power), 5 IN+ (in), 6 IN- (in), 7 OUT (out), 11 VEE (power)
part C pins: 4 VCC (power), 8 OUT (out), 9 IN- (in), 10 IN+ (in), 11 VEE (power)
part D pins: 4 VCC (power), 11 VEE (power), 12 IN+ (in), 13 IN- (in), 14 OUT (out)

## MAX4130
designator U?
Wide-Bandwidth, Low-Power, Single-Supply Rail-to-Rail I/O Op Amp; 1.库作者: 冰凌猫; 2.库版本: v2.0 (2021.03.30); 3.交流分享: Q群514746572,开源更新,欢迎一起交流学习PCB设计; 4.作者声明: 旨为整合最全库集,欢迎转载,禁止商用！-冰凌猫; 5.备注说明: 该库已二次整合过网上各热销库,基本最全,无需重复搜购安装
simulation model MAX4130 (SUBCKT)
pins: 1 OUT (out), 2 VEE (power), 3 IN+ (in), 4 IN- (in), 5 VCC (power)

## MAX4132
designator U?
Dual Wide-Bandwidth, Low-Power, Single-Supply Rail-to-Rail I/O Op Amp; 1.库作者: 冰凌猫; 2.库版本: v2.0 (2021.03.30); 3.交流分享: Q群514746572,开源更新,欢迎一起交流学习PCB设计; 4.作者声明: 旨为整合最全库集,欢迎转载,禁止商用！-冰凌猫; 5.备注说明: 该库已二次整合过网上各热销库,基本最全,无需重复搜购安装
simulation model MAX4132 (SUBCKT)
part A pins: 1 OUT (out), 2 IN- (in), 3 IN+ (in), 4 VEE (power), 8 VCC (power)
part B pins: 4 VEE (power), 5 IN+ (in), 6 IN- (in), 7 OUT (out), 8 VCC (power)

## MAX4134
designator U?
Quad Wide-Bandwidth, Low-Power, Single-Supply Rail-to-Rail I/O Op Amp; 1.库作者: 冰凌猫; 2.库版本: v2.0 (2021.03.30); 3.交流分享: Q群514746572,开源更新,欢迎一起交流学习PCB设计; 4.作者声明: 旨为整合最全库集,欢迎转载,禁止商用！-冰凌猫; 5.备注说明: 该库已二次整合过网上各热销库,基本最全,无需重复搜购安装
simulation model MAX4134 (SUBCKT)
part A pins: 1 OUT (out), 2 IN- (in), 3 IN+ (in), 4 VCC (power), 11 VEE (power)
part B pins: 4 VCC (power), 5 IN+ (in), 6 IN- (in), 7 OUT (out), 11 VEE (power)
part C pins: 4 VCC (power), 8 OUT (out), 9 IN- (in), 10 IN+ (in), 11 VEE (power)
part D pins: 4 VCC (power), 11 VEE (power), 12 IN+ (in), 13 IN- (in), 14 OUT (out)

## MAX4144
designator U?
High Speed Differential Line Receiver; 1.库作者: 冰凌猫; 2.库版本: v2.0 (2021.03.30); 3.交流分享: Q群514746572,开源更新,欢迎一起交流学习PCB设计; 4.作者声明: 旨为整合最全库集,欢迎转载,禁止商用！-冰凌猫; 5.备注说明: 该库已二次整合过网上各热销库,基本最全,无需重复搜购安装
footprint SO14
simulation model MAX4144 (SUBCKT)
pins: 1 VEE (power), 2 IN- (in), 4 SHDN (in), 6 IN+ (in), 7 VEE (power), 8 VCC (power), 9 REF (out), 11 OUT (out), 13 SENSE (out), 14 VCC (power)
text: 8,14; 1,7

## MAX4146
designator U?
High Speed Differential Line Receiver; 1.库作者: 冰凌猫; 2.库版本: v2.0 (2021.03.30); 3.交流分享: Q群514746572,开源更新,欢迎一起交流学习PCB设计; 4.作者声明: 旨为整合最全库集,欢迎转载,禁止商用！-冰凌猫; 5.备注说明: 该库已二次整合过网上各热销库,基本最全,无需重复搜购安装
footprint SO14
simulation model MAX4146 (SUBCKT)
pins: 1 VEE (power), 2 IN- (in), 3 RG- (in), 4 SHDN (in), 5 EG+ (in), 6 IN+ (in), 7 VEE (power), 8 VCC (power), 9 REF (out), 11 OUT (out), 13 SENSE (out), 14 VCC (power)
text: 8,14; 1,7

## MAX4162
designator U?
Micropower, Single-Supply, Rail-to-Rail I/O Op Amp; 0.0_备注: Pins 1, 5, and 8 are not connected; 1.库作者: 冰凌猫; 2.库版本: v2.0 (2021.03.30); 3.交流分享: Q群514746572,开源更新,欢迎一起交流学习PCB设计; 4.作者声明: 旨为整合最全库集,欢迎转载,禁止商用！-冰凌猫; 5.备注说明: 该库已二次整合过网上各热销库,基本最全,无需重复搜购安装
simulation model MAX4162 (SUBCKT)
pins: 2 IN- (in), 3 IN+ (in), 4 VEE (power), 6 OUT (out), 7 VCC (power)

## MAX4163
designator U?
Dual Micropower, Single-Supply, Rail-to-Rail I/O Op Amp; 1.库作者: 冰凌猫; 2.库版本: v2.0 (2021.03.30); 3.交流分享: Q群514746572,开源更新,欢迎一起交流学习PCB设计; 4.作者声明: 旨为整合最全库集,欢迎转载,禁止商用！-冰凌猫; 5.备注说明: 该库已二次整合过网上各热销库,基本最全,无需重复搜购安装
simulation model MAX4163 (SUBCKT)
part A pins: 1 OUT (out), 2 IN- (in), 3 IN+ (in), 4 VEE (power), 8 VCC (power)
part B pins: 4 VEE (power), 5 IN+ (in), 6 IN- (in), 7 OUT (out), 8 VCC (power)

## MAX4164
designator U?
Quad Micropower, Single-Supply, Rail-to-Rail I/O Op Amp; 1.库作者: 冰凌猫; 2.库版本: v2.0 (2021.03.30); 3.交流分享: Q群514746572,开源更新,欢迎一起交流学习PCB设计; 4.作者声明: 旨为整合最全库集,欢迎转载,禁止商用！-冰凌猫; 5.备注说明: 该库已二次整合过网上各热销库,基本最全,无需重复搜购安装
simulation model MAX4164 (SUBCKT)
part A pins: 1 OUT (out), 2 IN- (in), 3 IN+ (in), 4 VCC (power), 11 VEE (power)
part B pins: 4 VCC (power), 5 IN+ (in), 6 IN- (in), 7 OUT (out), 11 VEE (power)
part C pins: 4 VCC (power), 8 OUT (out), 9 IN- (in), 10 IN+ (in), 11 VEE (power)
part D pins: 4 VCC (power), 11 VEE (power), 12 IN+ (in), 13 IN- (in), 14 OUT (out)

## MAX4165
designator U?
High-Output-Drive, Precision, Low-Power, Single-Supply, Rail-to-Rail I/O Op Amp; 1.库作者: 冰凌猫; 2.库版本: v2.0 (2021.03.30); 3.交流分享: Q群514746572,开源更新,欢迎一起交流学习PCB设计; 4.作者声明: 旨为整合最全库集,欢迎转载,禁止商用！-冰凌猫; 5.备注说明: 该库已二次整合过网上各热销库,基本最全,无需重复搜购安装
simulation model MAX4165 (SUBCKT)
pins: 1 OUT (out), 2 VEE (power), 3 IN+ (in), 4 IN- (in), 5 VCC (power)

## MAX4167
designator U?
Dual High-Output-Drive, Precision, Low-Power, Single-Supply, Rail-to-Rail I/O Op Amp; 1.库作者: 冰凌猫; 2.库版本: v2.0 (2021.03.30); 3.交流分享: Q群514746572,开源更新,欢迎一起交流学习PCB设计; 4.作者声明: 旨为整合最全库集,欢迎转载,禁止商用！-冰凌猫; 5.备注说明: 该库已二次整合过网上各热销库,基本最全,无需重复搜购安装
simulation model MAX4167 (SUBCKT)
part A pins: 1 OUT (out), 2 IN- (in), 3 IN+ (in), 4 VEE (power), 8 VCC (power)
part B pins: 4 VEE (power), 5 IN+ (in), 6 IN- (in), 7 OUT (out), 8 VCC (power)

## MAX4169
designator U?
Quad High-Output-Drive, Precision, Low-Power, Single-Supply, Rail-to-Rail I/O Op Amp; 1.库作者: 冰凌猫; 2.库版本: v2.0 (2021.03.30); 3.交流分享: Q群514746572,开源更新,欢迎一起交流学习PCB设计; 4.作者声明: 旨为整合最全库集,欢迎转载,禁止商用！-冰凌猫; 5.备注说明: 该库已二次整合过网上各热销库,基本最全,无需重复搜购安装
simulation model MAX4169 (SUBCKT)
part A pins: 1 OUT (out), 2 IN- (in), 3 IN+ (in), 4 VCC (power), 11 VEE (power)
part B pins: 4 VCC (power), 5 IN+ (in), 6 IN- (in), 7 OUT (out), 11 VEE (power)
part C pins: 4 VCC (power), 8 OUT (out), 9 IN- (in), 10 IN+ (in), 11 VEE (power)
part D pins: 4 VCC (power), 11 VEE (power), 12 IN+ (in), 13 IN- (in), 14 OUT (out)

## MAX4178
designator U?
Voltage-Feedback Operational Amplifier; 1.库作者: 冰凌猫; 2.库版本: v2.0 (2021.03.30); 3.交流分享: Q群514746572,开源更新,欢迎一起交流学习PCB设计; 4.作者声明: 旨为整合最全库集,欢迎转载,禁止商用！-冰凌猫; 5.备注说明: 该库已二次整合过网上各热销库,基本最全,无需重复搜购安装
simulation model MAX4178 (SUBCKT)
part A pins: 1 OUT A (out), 2 -IN A (in), 3 +IN A (in), 4 V- (power), 8 V+ (power)
part B pins: 4 V- (power), 5 +IN B (in), 6 -IN B (in), 7 OUT B (out), 8 V+ (power)

## MAX4212
designator U?
Miniature, 300MHz, Single-Supply, Rail-to-Rail Op Amp; 1.库作者: 冰凌猫; 2.库版本: v2.0 (2021.03.30); 3.交流分享: Q群514746572,开源更新,欢迎一起交流学习PCB设计; 4.作者声明: 旨为整合最全库集,欢迎转载,禁止商用！-冰凌猫; 5.备注说明: 该库已二次整合过网上各热销库,基本最全,无需重复搜购安装
simulation model MAX4212 (SUBCKT)
pins: 1 OUT (out), 2 VEE (power), 3 IN+ (in), 4 IN- (in), 5 VCC (power)

## MAX4216
designator U?
Dual Miniature, 300MHz, Single-Supply, Rail-to-Rail Op Amp; 1.库作者: 冰凌猫; 2.库版本: v2.0 (2021.03.30); 3.交流分享: Q群514746572,开源更新,欢迎一起交流学习PCB设计; 4.作者声明: 旨为整合最全库集,欢迎转载,禁止商用！-冰凌猫; 5.备注说明: 该库已二次整合过网上各热销库,基本最全,无需重复搜购安装
simulation model MAX4216 (SUBCKT)
part A pins: 1 OUT (out), 2 IN- (in), 3 IN+ (in), 4 VEE (power), 8 VCC (power)
part B pins: 4 VEE (power), 5 IN+ (in), 6 IN- (in), 7 OUT (out), 8 VCC (power)

## MAX4220
designator U?
Quad 300MHz, Single-Supply, Rail-to-Rail Op Amp; 1.库作者: 冰凌猫; 2.库版本: v2.0 (2021.03.30); 3.交流分享: Q群514746572,开源更新,欢迎一起交流学习PCB设计; 4.作者声明: 旨为整合最全库集,欢迎转载,禁止商用！-冰凌猫; 5.备注说明: 该库已二次整合过网上各热销库,基本最全,无需重复搜购安装
simulation model MAX4220 (SUBCKT)
part A pins: 1 OUT (out), 2 IN- (in), 3 IN+ (in), 4 VCC (power), 11 VEE (power)
part B pins: 4 VCC (power), 5 IN+ (in), 6 IN- (in), 7 OUT (out), 11 VEE (power)
part C pins: 4 VCC (power), 8 OUT (out), 9 IN- (in), 10 IN+ (in), 11 VEE (power)
part D pins: 4 VCC (power), 11 VEE (power), 12 IN+ (in), 13 IN- (in), 14 OUT (out)

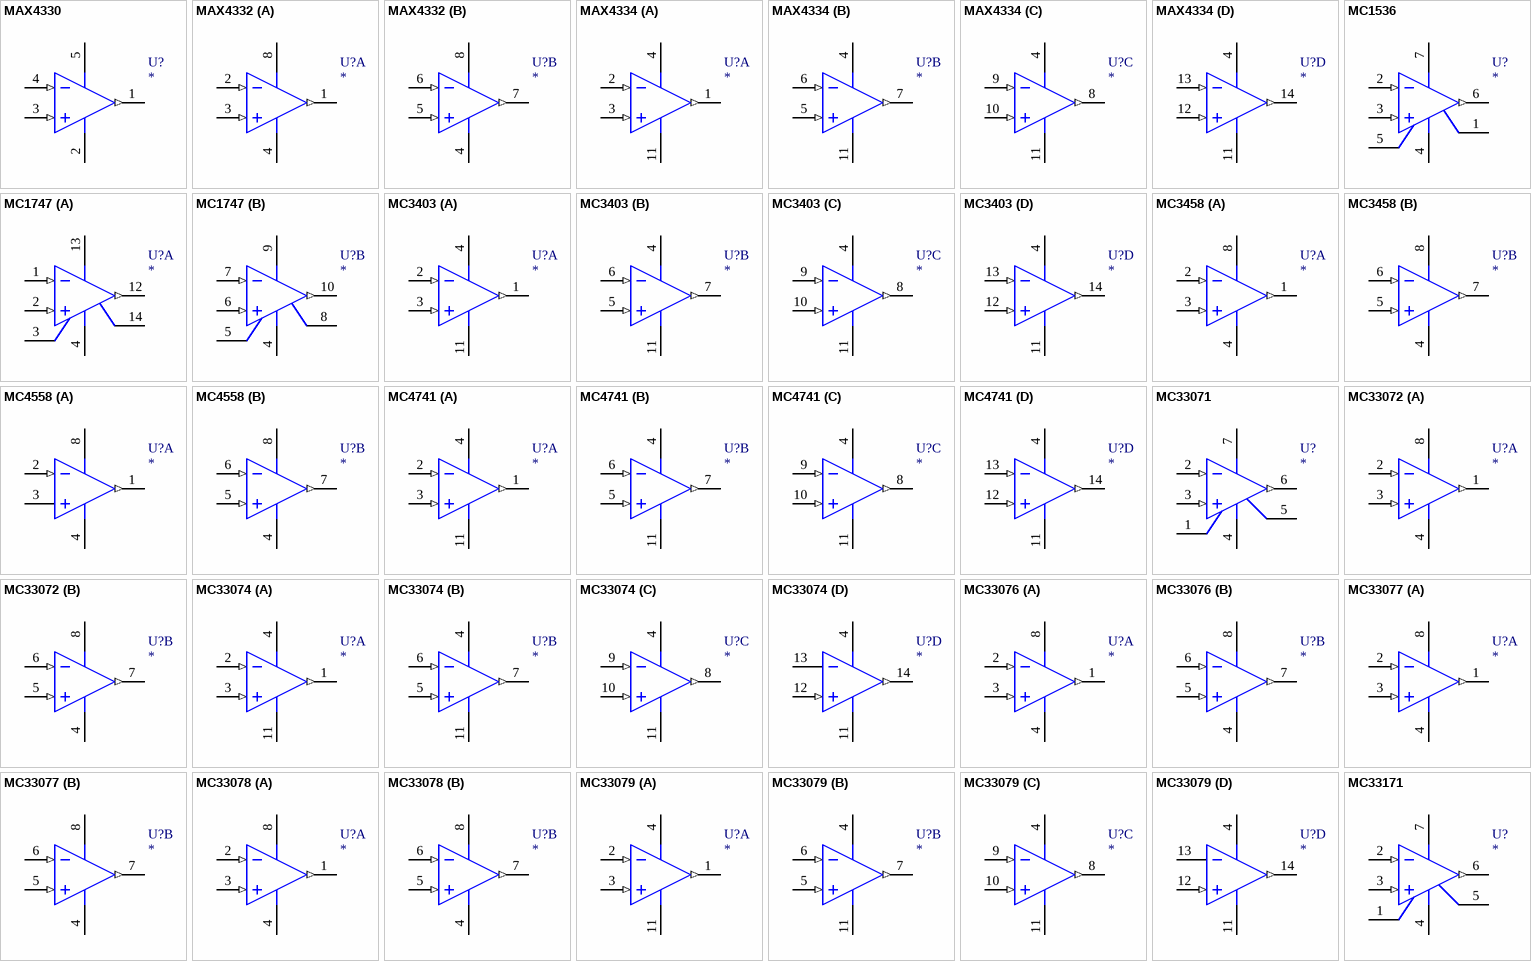
[diagram p18: symbols MAX4330 to MC33171]

## MAX4330
designator U?
Low-Power, Single-Supply, Rail-to-Rail I/O Op Amp; 1.库作者: 冰凌猫; 2.库版本: v2.0 (2021.03.30); 3.交流分享: Q群514746572,开源更新,欢迎一起交流学习PCB设计; 4.作者声明: 旨为整合最全库集,欢迎转载,禁止商用！-冰凌猫; 5.备注说明: 该库已二次整合过网上各热销库,基本最全,无需重复搜购安装
simulation model MAX4330 (SUBCKT)
pins: 1 OUT (out), 2 VEE (power), 3 IN+ (in), 4 IN- (in), 5 VCC (power)

## MAX4332
designator U?
Dual Low-Power, Single-Supply, Rail-to-Rail I/O Op Amp; 1.库作者: 冰凌猫; 2.库版本: v2.0 (2021.03.30); 3.交流分享: Q群514746572,开源更新,欢迎一起交流学习PCB设计; 4.作者声明: 旨为整合最全库集,欢迎转载,禁止商用！-冰凌猫; 5.备注说明: 该库已二次整合过网上各热销库,基本最全,无需重复搜购安装
simulation model MAX4332 (SUBCKT)
part A pins: 1 OUT (out), 2 IN- (in), 3 IN+ (in), 4 VEE (power), 8 VCC (power)
part B pins: 4 VEE (power), 5 IN+ (in), 6 IN- (in), 7 OUT (out), 8 VCC (power)

## MAX4334
designator U?
Quad Low-Power, Single-Supply, Rail-to-Rail I/O Op Amp; 1.库作者: 冰凌猫; 2.库版本: v2.0 (2021.03.30); 3.交流分享: Q群514746572,开源更新,欢迎一起交流学习PCB设计; 4.作者声明: 旨为整合最全库集,欢迎转载,禁止商用！-冰凌猫; 5.备注说明: 该库已二次整合过网上各热销库,基本最全,无需重复搜购安装
simulation model MAX4334 (SUBCKT)
part A pins: 1 OUT (out), 2 IN- (in), 3 IN+ (in), 4 VCC (power), 11 VEE (power)
part B pins: 4 VCC (power), 5 IN+ (in), 6 IN- (in), 7 OUT (out), 11 VEE (power)
part C pins: 4 VCC (power), 8 OUT (out), 9 IN- (in), 10 IN+ (in), 11 VEE (power)
part D pins: 4 VCC (power), 11 VEE (power), 12 IN+ (in), 13 IN- (in), 14 OUT (out)

## MC1536
designator U?
High Voltage, Internally Compensated Oerational Amplifier; 1.库作者: 冰凌猫; 2.库版本: v2.0 (2021.03.30); 3.交流分享: Q群514746572,开源更新,欢迎一起交流学习PCB设计; 4.作者声明: 旨为整合最全库集,欢迎转载,禁止商用！-冰凌猫; 5.备注说明: 该库已二次整合过网上各热销库,基本最全,无需重复搜购安装
simulation model MC1536 (SUBCKT)
pins: 1 OFFSET NULL, 2 IN- (in), 3 IN+ (in), 4 VEE (power), 5 OFFSET NULL, 6 OUT (out), 7 VCC (power)

## MC1747
designator U?
Internally Compensated, High Performance Operational Amplfier; 1.库作者: 冰凌猫; 2.库版本: v2.0 (2021.03.30); 3.交流分享: Q群514746572,开源更新,欢迎一起交流学习PCB设计; 4.作者声明: 旨为整合最全库集,欢迎转载,禁止商用！-冰凌猫; 5.备注说明: 该库已二次整合过网上各热销库,基本最全,无需重复搜购安装
simulation model MC1747 (SUBCKT)
part A pins: 1 IN- (in), 2 IN+ (in), 3 OFFSET ADJ A, 4 VEE (power), 12 OUT A (out), 13 VCC A (power), 14 OFFSET ADJ A
part B pins: 4 VEE (power), 5 OFFSET ADJ B, 6 IN+ (in), 7 IN- (in), 8 OFFSET ADJ B, 9 VCC B (power), 10 OUT B (out)

## MC3403
designator U?
Quad Low Power Operational Amplifier; 1.库作者: 冰凌猫; 2.库版本: v2.0 (2021.03.30); 3.交流分享: Q群514746572,开源更新,欢迎一起交流学习PCB设计; 4.作者声明: 旨为整合最全库集,欢迎转载,禁止商用！-冰凌猫; 5.备注说明: 该库已二次整合过网上各热销库,基本最全,无需重复搜购安装
simulation model MC3403 (SUBCKT)
part A pins: 1 OUT 1 (out), 2 IN-1 (in), 3 IN+1 (in), 4 VCC (power), 11 VEE (power)
part B pins: 4 VCC (power), 5 IN+2 (in), 6 IN-2 (in), 7 OUT 2 (out), 11 VEE (power)
part C pins: 4 VCC (power), 8 OUT 3 (out), 9 IN-3 (in), 10 IN+3 (in), 11 VEE (power)
part D pins: 4 VCC (power), 11 VEE (power), 12 IN+4 (in), 13 IN-4 (in), 14 OUT 4 (out)

## MC3458
designator U?
Dual Low Power Operational Amplifier; 1.库作者: 冰凌猫; 2.库版本: v2.0 (2021.03.30); 3.交流分享: Q群514746572,开源更新,欢迎一起交流学习PCB设计; 4.作者声明: 旨为整合最全库集,欢迎转载,禁止商用！-冰凌猫; 5.备注说明: 该库已二次整合过网上各热销库,基本最全,无需重复搜购安装
simulation model MC3458 (SUBCKT)
part A pins: 1 OUTA (out), 2 IN-A (in), 3 IN+A (in), 4 VEE (power), 8 VCC (power)
part B pins: 4 VEE (power), 5 IN+B (in), 6 IN-B (in), 7 OUT B (out), 8 VCC (power)

## MC4558
designator U?
Dual Wide Bandwidth Operational Amplfier; 1.库作者: 冰凌猫; 2.库版本: v2.0 (2021.03.30); 3.交流分享: Q群514746572,开源更新,欢迎一起交流学习PCB设计; 4.作者声明: 旨为整合最全库集,欢迎转载,禁止商用！-冰凌猫; 5.备注说明: 该库已二次整合过网上各热销库,基本最全,无需重复搜购安装
simulation model MC4558 (SUBCKT)
part A pins: 1 OUT A (out), 2 IN-A (in), 3 IN+A, 4 VEE (power), 8 VCC (power)
part B pins: 4 VEE (power), 5 IN+B (in), 6 IN-B (in), 7 OUT B (out), 8 VCC (power)

## MC4741
designator U?
Quad Differential Input Operational Amplifier; 1.库作者: 冰凌猫; 2.库版本: v2.0 (2021.03.30); 3.交流分享: Q群514746572,开源更新,欢迎一起交流学习PCB设计; 4.作者声明: 旨为整合最全库集,欢迎转载,禁止商用！-冰凌猫; 5.备注说明: 该库已二次整合过网上各热销库,基本最全,无需重复搜购安装
simulation model MC4741 (SUBCKT)
part A pins: 1 OUT (out), 2 IN- (in), 3 IN+ (in), 4 VCC (power), 11 VEE (power)
part B pins: 4 VCC (power), 5 IN+ (in), 6 IN- (in), 7 OUT (out), 11 VEE (power)
part C pins: 4 VCC (power), 8 OUT (out), 9 IN- (in), 10 IN+ (in), 11 VEE (power)
part D pins: 4 VCC (power), 11 VEE (power), 12 IN+ (in), 13 IN- (in), 14 OUT (out)

## MC33071
designator U?
High Performance, Single Supply Operational Amplifier; 1.库作者: 冰凌猫; 2.库版本: v2.0 (2021.03.30); 3.交流分享: Q群514746572,开源更新,欢迎一起交流学习PCB设计; 4.作者声明: 旨为整合最全库集,欢迎转载,禁止商用！-冰凌猫; 5.备注说明: 该库已二次整合过网上各热销库,基本最全,无需重复搜购安装
simulation model MC33071 (SUBCKT)
pins: 1 OFFSET NULL, 2 -IN (in), 3 +IN (in), 4 V- (power), 5 OFFSET NULL, 6 OUT (out), 7 V+ (power)

## MC33072
designator U?
Dual High Performance, Single Supply Operational Amplifier; 1.库作者: 冰凌猫; 2.库版本: v2.0 (2021.03.30); 3.交流分享: Q群514746572,开源更新,欢迎一起交流学习PCB设计; 4.作者声明: 旨为整合最全库集,欢迎转载,禁止商用！-冰凌猫; 5.备注说明: 该库已二次整合过网上各热销库,基本最全,无需重复搜购安装
simulation model MC33072 (SUBCKT)
part A pins: 1 OUT A (out), 2 -IN A (in), 3 +IN A (in), 4 V- (power), 8 V+ (power)
part B pins: 4 V- (power), 5 +IN B (in), 6 -IN B (in), 7 OUT B (out), 8 V+ (power)

## MC33074
designator U?
Quad High Performance, Single Supply Operational Amplifier; 1.库作者: 冰凌猫; 2.库版本: v2.0 (2021.03.30); 3.交流分享: Q群514746572,开源更新,欢迎一起交流学习PCB设计; 4.作者声明: 旨为整合最全库集,欢迎转载,禁止商用！-冰凌猫; 5.备注说明: 该库已二次整合过网上各热销库,基本最全,无需重复搜购安装
simulation model MC33074 (SUBCKT)
part A pins: 1 OUT (out), 2 -IN 1 (in), 3 +IN 1 (in), 4 V+ (power), 11 V- (power)
part B pins: 4 V+ (power), 5 +IN 2 (in), 6 -IN 2 (in), 7 OUT 2 (out), 11 V- (power)
part C pins: 4 V+ (power), 8 OUT 3 (out), 9 -IN 3 (in), 10 +IN 3 (in), 11 V- (power)
part D pins: 4 V+ (power), 11 V- (power), 12 +IN 4 (in), 13 -IN 4, 14 OUT 4 (out)

## MC33076
designator U?
Dual High Output Current Operational Amplifier; 1.库作者: 冰凌猫; 2.库版本: v2.0 (2021.03.30); 3.交流分享: Q群514746572,开源更新,欢迎一起交流学习PCB设计; 4.作者声明: 旨为整合最全库集,欢迎转载,禁止商用！-冰凌猫; 5.备注说明: 该库已二次整合过网上各热销库,基本最全,无需重复搜购安装
simulation model MC33076 (SUBCKT)
part A pins: 1 OUT A (out), 2 -IN A (in), 3 +IN A (in), 4 V- (power), 8 V+ (power)
part B pins: 4 V- (power), 5 +IN B (in), 6 -IN B (in), 7 OUT B (out), 8 V+ (power)

## MC33077
designator U?
Dual, Low Noise Operational Amplifier; 1.库作者: 冰凌猫; 2.库版本: v2.0 (2021.03.30); 3.交流分享: Q群514746572,开源更新,欢迎一起交流学习PCB设计; 4.作者声明: 旨为整合最全库集,欢迎转载,禁止商用！-冰凌猫; 5.备注说明: 该库已二次整合过网上各热销库,基本最全,无需重复搜购安装
simulation model MC33077 (SUBCKT)
part A pins: 1 OUT (out), 2 IN- (in), 3 IN+ (in), 4 VEE (power), 8 VCC (power)
part B pins: 4 VEE (power), 5 IN+ (in), 6 IN- (in), 7 OUT (out), 8 VCC (power)

## MC33078
designator U?
Low Noise Operational Amplifier; 1.库作者: 冰凌猫; 2.库版本: v2.0 (2021.03.30); 3.交流分享: Q群514746572,开源更新,欢迎一起交流学习PCB设计; 4.作者声明: 旨为整合最全库集,欢迎转载,禁止商用！-冰凌猫; 5.备注说明: 该库已二次整合过网上各热销库,基本最全,无需重复搜购安装
simulation model MC33078 (SUBCKT)
part A pins: 1 OUT A (out), 2 -IN A (in), 3 +IN A (in), 4 V- (power), 8 V+ (power)
part B pins: 4 V- (power), 5 +IN B (in), 6 -IN B (in), 7 OUT B (out), 8 V+ (power)

## MC33079
designator U?
Low Noise Operational Amplifier; 1.库作者: 冰凌猫; 2.库版本: v2.0 (2021.03.30); 3.交流分享: Q群514746572,开源更新,欢迎一起交流学习PCB设计; 4.作者声明: 旨为整合最全库集,欢迎转载,禁止商用！-冰凌猫; 5.备注说明: 该库已二次整合过网上各热销库,基本最全,无需重复搜购安装
simulation model MC33079 (SUBCKT)
part A pins: 1 OUT (out), 2 -IN 1 (in), 3 +IN 1 (in), 4 V+ (power), 11 V- (power)
part B pins: 4 V+ (power), 5 +IN 2 (in), 6 -IN 2 (in), 7 OUT 2 (out), 11 V- (power)
part C pins: 4 V+ (power), 8 OUT 3 (out), 9 -IN 3 (in), 10 +IN 3 (in), 11 V- (power)
part D pins: 4 V+ (power), 11 V- (power), 12 +IN 4 (in), 13 -IN 4, 14 OUT 4 (out)

## MC33171
designator U?
Low Power, Single Supply Operational Amplifier; 1.库作者: 冰凌猫; 2.库版本: v2.0 (2021.03.30); 3.交流分享: Q群514746572,开源更新,欢迎一起交流学习PCB设计; 4.作者声明: 旨为整合最全库集,欢迎转载,禁止商用！-冰凌猫; 5.备注说明: 该库已二次整合过网上各热销库,基本最全,无需重复搜购安装
simulation model MC33171 (SUBCKT)
pins: 1 OFFSET NULL, 2 -IN (in), 3 +IN (in), 4 V- (power), 5 OFFSET NULL, 6 OUT (out), 7 V+ (power)

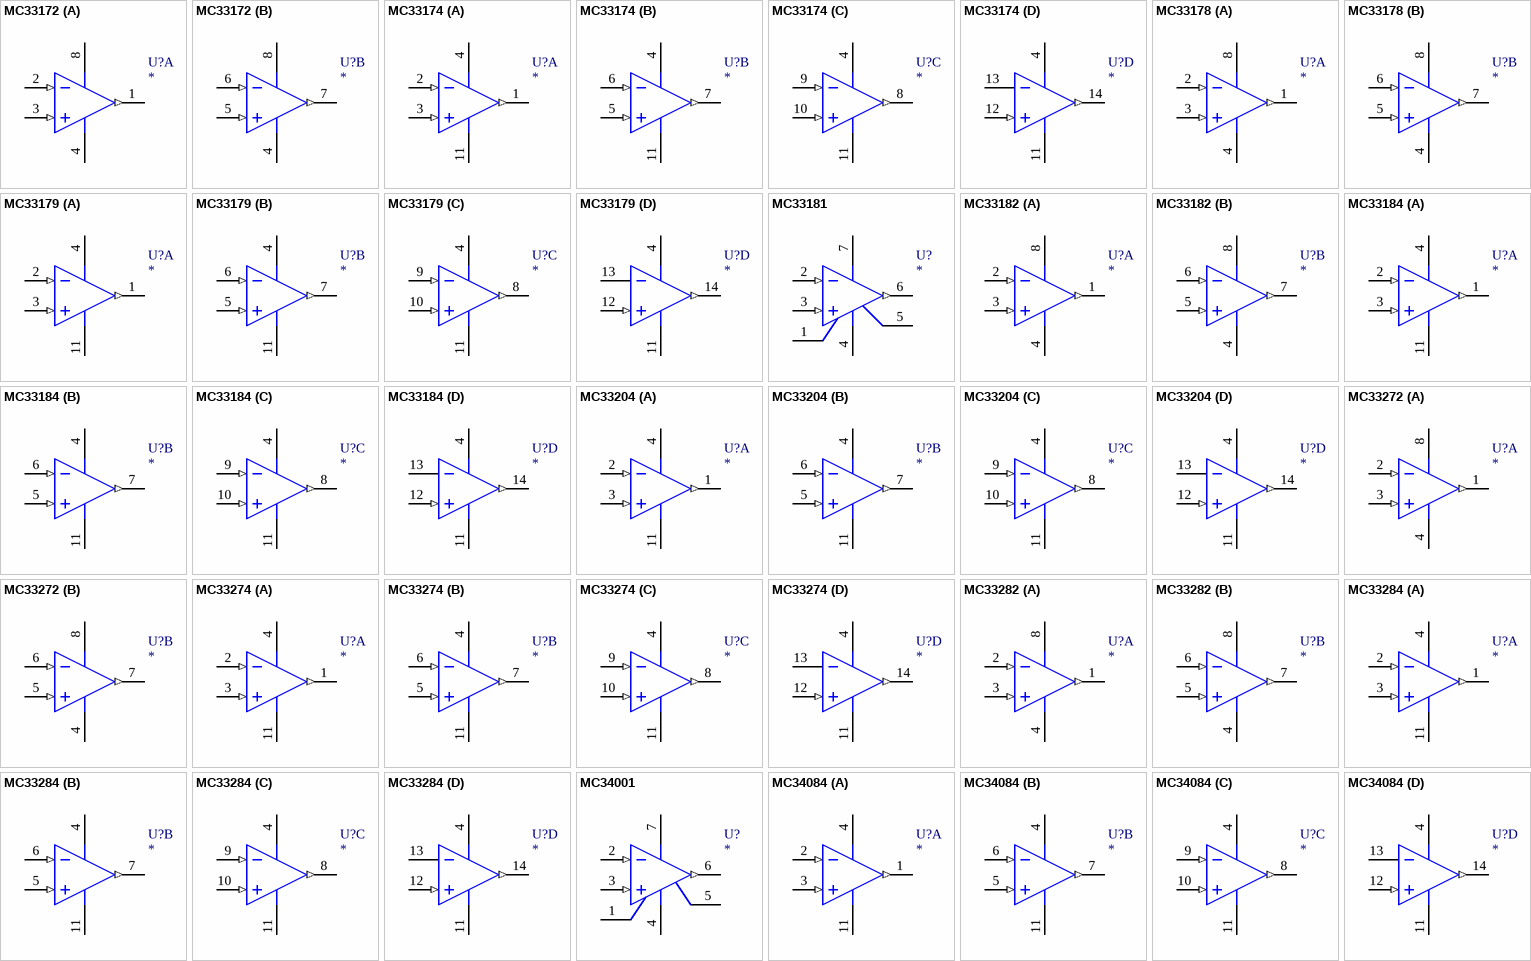
[diagram p19: symbols MC33172 to MC34084]

## MC33172
designator U?
Dual Low Power, Single Supply Operational Amplifier; 1.库作者: 冰凌猫; 2.库版本: v2.0 (2021.03.30); 3.交流分享: Q群514746572,开源更新,欢迎一起交流学习PCB设计; 4.作者声明: 旨为整合最全库集,欢迎转载,禁止商用！-冰凌猫; 5.备注说明: 该库已二次整合过网上各热销库,基本最全,无需重复搜购安装
simulation model MC33172 (SUBCKT)
part A pins: 1 OUT A (out), 2 -IN A (in), 3 +IN A (in), 4 V- (power), 8 V+ (power)
part B pins: 4 V- (power), 5 +IN B (in), 6 -IN B (in), 7 OUT B (out), 8 V+ (power)

## MC33174
designator U?
Quad Low Power, Single Supply Operational Amplifier; 1.库作者: 冰凌猫; 2.库版本: v2.0 (2021.03.30); 3.交流分享: Q群514746572,开源更新,欢迎一起交流学习PCB设计; 4.作者声明: 旨为整合最全库集,欢迎转载,禁止商用！-冰凌猫; 5.备注说明: 该库已二次整合过网上各热销库,基本最全,无需重复搜购安装
simulation model MC33174 (SUBCKT)
part A pins: 1 OUT (out), 2 -IN 1 (in), 3 +IN 1 (in), 4 V+ (power), 11 V- (power)
part B pins: 4 V+ (power), 5 +IN 2 (in), 6 -IN 2 (in), 7 OUT 2 (out), 11 V- (power)
part C pins: 4 V+ (power), 8 OUT 3 (out), 9 -IN 3 (in), 10 +IN 3 (in), 11 V- (power)
part D pins: 4 V+ (power), 11 V- (power), 12 +IN 4 (in), 13 -IN 4, 14 OUT 4 (out)

## MC33178
designator U?
Dual High Output Current, Low Power, Low Noise Operational Amplifier; 1.库作者: 冰凌猫; 2.库版本: v2.0 (2021.03.30); 3.交流分享: Q群514746572,开源更新,欢迎一起交流学习PCB设计; 4.作者声明: 旨为整合最全库集,欢迎转载,禁止商用！-冰凌猫; 5.备注说明: 该库已二次整合过网上各热销库,基本最全,无需重复搜购安装
simulation model MC33178 (SUBCKT)
part A pins: 1 OUT A (out), 2 -IN A (in), 3 +IN A (in), 4 V- (power), 8 V+ (power)
part B pins: 4 V- (power), 5 +IN B (in), 6 -IN B (in), 7 OUT B (out), 8 V+ (power)

## MC33179
designator U?
Quad High Output Current, Low Power, Low Noise Operational Amplifier; 1.库作者: 冰凌猫; 2.库版本: v2.0 (2021.03.30); 3.交流分享: Q群514746572,开源更新,欢迎一起交流学习PCB设计; 4.作者声明: 旨为整合最全库集,欢迎转载,禁止商用！-冰凌猫; 5.备注说明: 该库已二次整合过网上各热销库,基本最全,无需重复搜购安装
simulation model MC33179 (SUBCKT)
part A pins: 1 OUT (out), 2 -IN 1 (in), 3 +IN 1 (in), 4 V+ (power), 11 V- (power)
part B pins: 4 V+ (power), 5 +IN 2 (in), 6 -IN 2 (in), 7 OUT 2 (out), 11 V- (power)
part C pins: 4 V+ (power), 8 OUT 3 (out), 9 -IN 3 (in), 10 +IN 3 (in), 11 V- (power)
part D pins: 4 V+ (power), 11 V- (power), 12 +IN 4 (in), 13 -IN 4, 14 OUT 4 (out)

## MC33181
designator U?
Low Power JFET Input Operational Amplifier; 1.库作者: 冰凌猫; 2.库版本: v2.0 (2021.03.30); 3.交流分享: Q群514746572,开源更新,欢迎一起交流学习PCB设计; 4.作者声明: 旨为整合最全库集,欢迎转载,禁止商用！-冰凌猫; 5.备注说明: 该库已二次整合过网上各热销库,基本最全,无需重复搜购安装
simulation model MC33181 (SUBCKT)
pins: 1 OFFSET NULL, 2 -IN (in), 3 +IN (in), 4 V- (power), 5 OFFSET NULL, 6 OUT (out), 7 V+ (power)

## MC33182
designator U?
Dual Low Power JFET Input Operational Amplifier; 1.库作者: 冰凌猫; 2.库版本: v2.0 (2021.03.30); 3.交流分享: Q群514746572,开源更新,欢迎一起交流学习PCB设计; 4.作者声明: 旨为整合最全库集,欢迎转载,禁止商用！-冰凌猫; 5.备注说明: 该库已二次整合过网上各热销库,基本最全,无需重复搜购安装
simulation model MC33182 (SUBCKT)
part A pins: 1 OUT A (out), 2 -IN A (in), 3 +IN A (in), 4 V- (power), 8 V+ (power)
part B pins: 4 V- (power), 5 +IN B (in), 6 -IN B (in), 7 OUT B (out), 8 V+ (power)

## MC33184
designator U?
Quad Low Power JFET Input Operational Amplifier; 1.库作者: 冰凌猫; 2.库版本: v2.0 (2021.03.30); 3.交流分享: Q群514746572,开源更新,欢迎一起交流学习PCB设计; 4.作者声明: 旨为整合最全库集,欢迎转载,禁止商用！-冰凌猫; 5.备注说明: 该库已二次整合过网上各热销库,基本最全,无需重复搜购安装
simulation model MC33184 (SUBCKT)
part A pins: 1 OUT (out), 2 -IN 1 (in), 3 +IN 1 (in), 4 V+ (power), 11 V- (power)
part B pins: 4 V+ (power), 5 +IN 2 (in), 6 -IN 2 (in), 7 OUT 2 (out), 11 V- (power)
part C pins: 4 V+ (power), 8 OUT 3 (out), 9 -IN 3 (in), 10 +IN 3 (in), 11 V- (power)
part D pins: 4 V+ (power), 11 V- (power), 12 +IN 4 (in), 13 -IN 4, 14 OUT 4 (out)

## MC33204
designator U?
Quad Rail-to-Rail Operational Amplifier; 1.库作者: 冰凌猫; 2.库版本: v2.0 (2021.03.30); 3.交流分享: Q群514746572,开源更新,欢迎一起交流学习PCB设计; 4.作者声明: 旨为整合最全库集,欢迎转载,禁止商用！-冰凌猫; 5.备注说明: 该库已二次整合过网上各热销库,基本最全,无需重复搜购安装
simulation model MC33204 (SUBCKT)
part A pins: 1 OUT (out), 2 -IN 1 (in), 3 +IN 1 (in), 4 V+ (power), 11 V- (power)
part B pins: 4 V+ (power), 5 +IN 2 (in), 6 -IN 2 (in), 7 OUT 2 (out), 11 V- (power)
part C pins: 4 V+ (power), 8 OUT 3 (out), 9 -IN 3 (in), 10 +IN 3 (in), 11 V- (power)
part D pins: 4 V+ (power), 11 V- (power), 12 +IN 4 (in), 13 -IN 4, 14 OUT 4 (out)

## MC33272
designator U?
Dual High Performance Operational Amplifier; 1.库作者: 冰凌猫; 2.库版本: v2.0 (2021.03.30); 3.交流分享: Q群514746572,开源更新,欢迎一起交流学习PCB设计; 4.作者声明: 旨为整合最全库集,欢迎转载,禁止商用！-冰凌猫; 5.备注说明: 该库已二次整合过网上各热销库,基本最全,无需重复搜购安装
simulation model MC33272 (SUBCKT)
part A pins: 1 OUT A (out), 2 -IN A (in), 3 +IN A (in), 4 V- (power), 8 V+ (power)
part B pins: 4 V- (power), 5 +IN B (in), 6 -IN B (in), 7 OUT B (out), 8 V+ (power)

## MC33274
designator U?
Quad High Performance Operational Amplifier; 1.库作者: 冰凌猫; 2.库版本: v2.0 (2021.03.30); 3.交流分享: Q群514746572,开源更新,欢迎一起交流学习PCB设计; 4.作者声明: 旨为整合最全库集,欢迎转载,禁止商用！-冰凌猫; 5.备注说明: 该库已二次整合过网上各热销库,基本最全,无需重复搜购安装
simulation model MC33274 (SUBCKT)
part A pins: 1 OUT (out), 2 -IN 1 (in), 3 +IN 1 (in), 4 V+ (power), 11 V- (power)
part B pins: 4 V+ (power), 5 +IN 2 (in), 6 -IN 2 (in), 7 OUT 2 (out), 11 V- (power)
part C pins: 4 V+ (power), 8 OUT 3 (out), 9 -IN 3 (in), 10 +IN 3 (in), 11 V- (power)
part D pins: 4 V+ (power), 11 V- (power), 12 +IN 4 (in), 13 -IN 4, 14 OUT 4 (out)

## MC33282
designator U?
Dual JFET Operational Amplifier; 1.库作者: 冰凌猫; 2.库版本: v2.0 (2021.03.30); 3.交流分享: Q群514746572,开源更新,欢迎一起交流学习PCB设计; 4.作者声明: 旨为整合最全库集,欢迎转载,禁止商用！-冰凌猫; 5.备注说明: 该库已二次整合过网上各热销库,基本最全,无需重复搜购安装
simulation model MC33282 (SUBCKT)
part A pins: 1 OUT A (out), 2 -IN A (in), 3 +IN A (in), 4 V- (power), 8 V+ (power)
part B pins: 4 V- (power), 5 +IN B (in), 6 -IN B (in), 7 OUT B (out), 8 V+ (power)

## MC33284
designator U?
Quad JFET Operational Amplifier; 1.库作者: 冰凌猫; 2.库版本: v2.0 (2021.03.30); 3.交流分享: Q群514746572,开源更新,欢迎一起交流学习PCB设计; 4.作者声明: 旨为整合最全库集,欢迎转载,禁止商用！-冰凌猫; 5.备注说明: 该库已二次整合过网上各热销库,基本最全,无需重复搜购安装
simulation model MC33284 (SUBCKT)
part A pins: 1 OUT (out), 2 -IN 1 (in), 3 +IN 1 (in), 4 V+ (power), 11 V- (power)
part B pins: 4 V+ (power), 5 +IN 2 (in), 6 -IN 2 (in), 7 OUT 2 (out), 11 V- (power)
part C pins: 4 V+ (power), 8 OUT 3 (out), 9 -IN 3 (in), 10 +IN 3 (in), 11 V- (power)
part D pins: 4 V+ (power), 11 V- (power), 12 +IN 4 (in), 13 -IN 4, 14 OUT 4 (out)

## MC34001
designator U?
JFET Input Operational Amplifier; 1.库作者: 冰凌猫; 2.库版本: v2.0 (2021.03.30); 3.交流分享: Q群514746572,开源更新,欢迎一起交流学习PCB设计; 4.作者声明: 旨为整合最全库集,欢迎转载,禁止商用！-冰凌猫; 5.备注说明: 该库已二次整合过网上各热销库,基本最全,无需重复搜购安装
simulation model MC34001 (SUBCKT)
pins: 1 OFFSET NULL, 2 IN- (in), 3 IN+ (in), 4 VEE (power), 5 OFFSET NULL, 6 OUT (out), 7 VCC (power)

## MC34084
designator U?
Quad High Speed JFET Input Operational Amplifier; 1.库作者: 冰凌猫; 2.库版本: v2.0 (2021.03.30); 3.交流分享: Q群514746572,开源更新,欢迎一起交流学习PCB设计; 4.作者声明: 旨为整合最全库集,欢迎转载,禁止商用！-冰凌猫; 5.备注说明: 该库已二次整合过网上各热销库,基本最全,无需重复搜购安装
simulation model MC34084 (SUBCKT)
part A pins: 1 OUT (out), 2 -IN 1 (in), 3 +IN 1 (in), 4 V+ (power), 11 V- (power)
part B pins: 4 V+ (power), 5 +IN 2 (in), 6 -IN 2 (in), 7 OUT 2 (out), 11 V- (power)
part C pins: 4 V+ (power), 8 OUT 3 (out), 9 -IN 3 (in), 10 +IN 3 (in), 11 V- (power)
part D pins: 4 V+ (power), 11 V- (power), 12 +IN 4 (in), 13 -IN 4, 14 OUT 4 (out)

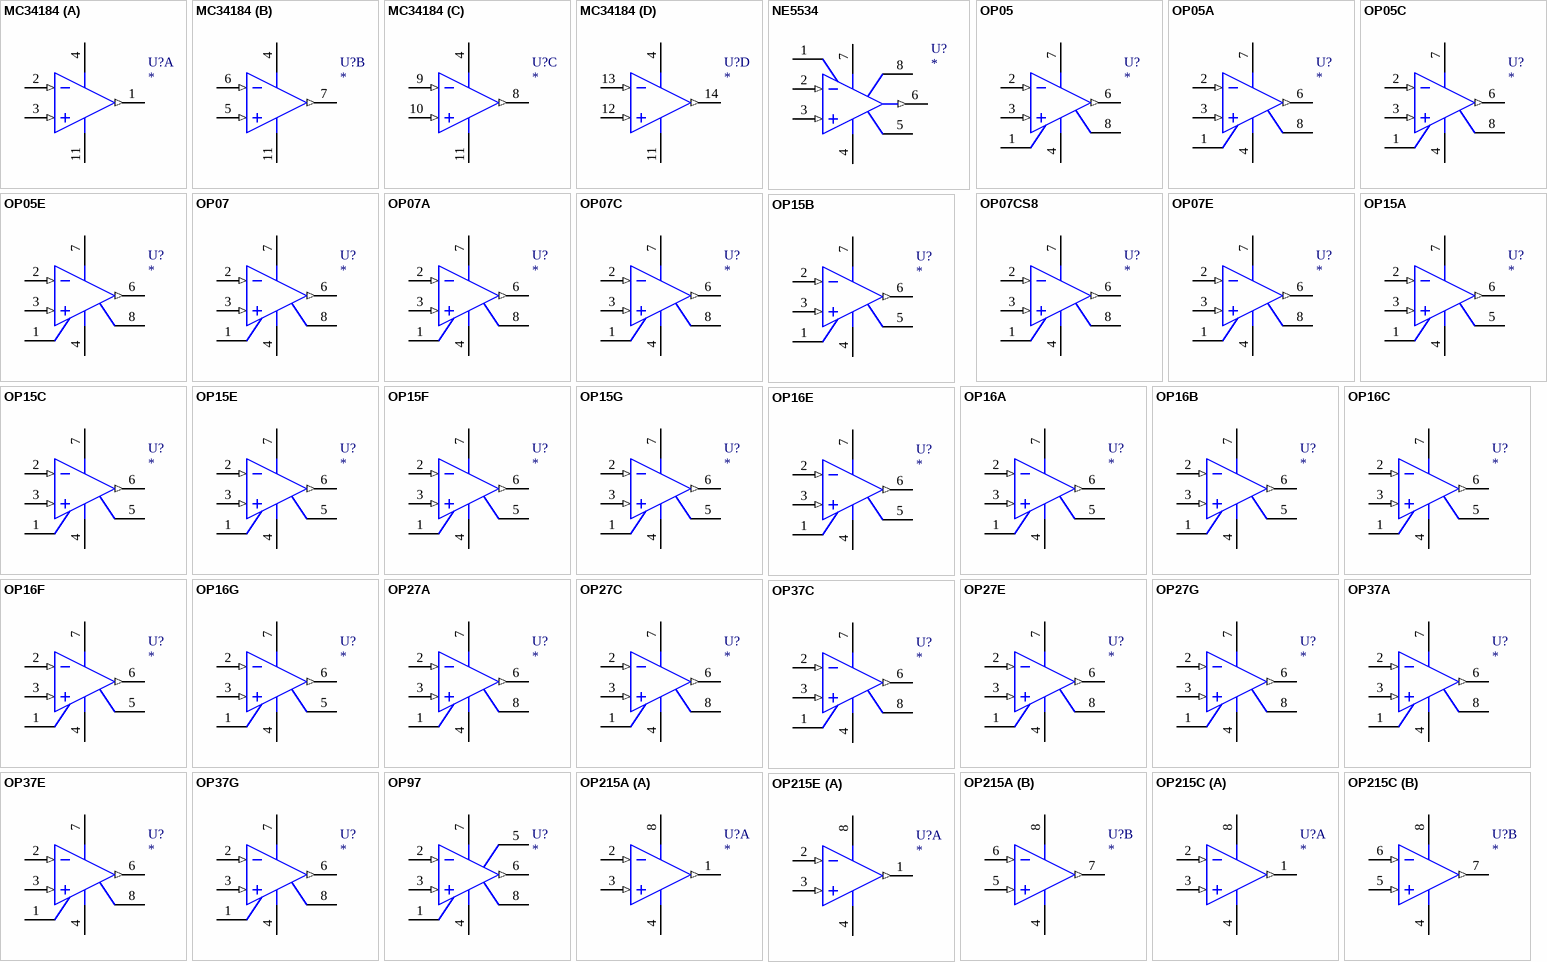
[diagram p20: symbols MC34184 to OP215E]

## MC34184
designator U?
Quad Low Power, High Slew Rate, Wide Bandwidth, JFET Input Operational Amplifier; 1.库作者: 冰凌猫; 2.库版本: v2.0 (2021.03.30); 3.交流分享: Q群514746572,开源更新,欢迎一起交流学习PCB设计; 4.作者声明: 旨为整合最全库集,欢迎转载,禁止商用！-冰凌猫; 5.备注说明: 该库已二次整合过网上各热销库,基本最全,无需重复搜购安装
simulation model MC34184 (SUBCKT)
part A pins: 1 OUT (out), 2 IN- (in), 3 IN+ (in), 4 VCC (power), 11 VEE (power)
part B pins: 4 VCC (power), 5 IN+ (in), 6 IN- (in), 7 OUT (out), 11 VEE (power)
part C pins: 4 VCC (power), 8 OUT (out), 9 IN- (in), 10 IN+ (in), 11 VEE (power)
part D pins: 4 VCC (power), 11 VEE (power), 12 IN+ (in), 13 IN- (in), 14 OUT (out)

## NE5534
designator U?
Low-Noise Operational Amplifiers; 1.库作者: 冰凌猫; 2.库版本: v2.0 (2021.03.30); 3.交流分享: Q群514746572,开源更新,欢迎一起交流学习PCB设计; 4.作者声明: 旨为整合最全库集,欢迎转载,禁止商用！-冰凌猫; 5.备注说明: 该库已二次整合过网上各热销库,基本最全,无需重复搜购安装
simulation model NE5534 (SUBCKT)
pins: 1 BAL, 2 IN- (in), 3 IN+ (in), 4 VCC- (power), 5 COMP, 6 OUT (out), 7 VCC+ (power), 8 COMP/BAL

## OP05
designator U?
Operational Amplifier; 1.库作者: 冰凌猫; 2.库版本: v2.0 (2021.03.30); 3.交流分享: Q群514746572,开源更新,欢迎一起交流学习PCB设计; 4.作者声明: 旨为整合最全库集,欢迎转载,禁止商用！-冰凌猫; 5.备注说明: 该库已二次整合过网上各热销库,基本最全,无需重复搜购安装
footprint DIP-8
simulation model OP05 (SUBCKT)
pins: 1 OFFSET ADJUST, 2 -IN (in), 3 +IN (in), 4 V- (power), 6 OUT (out), 7 V+ (power), 8 OFFSET ADJUST

## OP05A
designator U?
Operational Amplifier; 1.库作者: 冰凌猫; 2.库版本: v2.0 (2021.03.30); 3.交流分享: Q群514746572,开源更新,欢迎一起交流学习PCB设计; 4.作者声明: 旨为整合最全库集,欢迎转载,禁止商用！-冰凌猫; 5.备注说明: 该库已二次整合过网上各热销库,基本最全,无需重复搜购安装
footprint DIP-8
simulation model OP05A (SUBCKT)
pins: 1 OFFSET ADJUST, 2 -IN (in), 3 +IN (in), 4 V- (power), 6 OUT (out), 7 V+ (power), 8 OFFSET ADJUST

## OP05C
designator U?
Operational Amplifier; 1.库作者: 冰凌猫; 2.库版本: v2.0 (2021.03.30); 3.交流分享: Q群514746572,开源更新,欢迎一起交流学习PCB设计; 4.作者声明: 旨为整合最全库集,欢迎转载,禁止商用！-冰凌猫; 5.备注说明: 该库已二次整合过网上各热销库,基本最全,无需重复搜购安装
footprint DIP-8
simulation model OP05C (SUBCKT)
pins: 1 OFFSET ADJUST, 2 -IN (in), 3 +IN (in), 4 V- (power), 6 OUT (out), 7 V+ (power), 8 OFFSET ADJUST

## OP05E
designator U?
Operational Amplifier; 1.库作者: 冰凌猫; 2.库版本: v2.0 (2021.03.30); 3.交流分享: Q群514746572,开源更新,欢迎一起交流学习PCB设计; 4.作者声明: 旨为整合最全库集,欢迎转载,禁止商用！-冰凌猫; 5.备注说明: 该库已二次整合过网上各热销库,基本最全,无需重复搜购安装
footprint DIP-8
simulation model OP05E (SUBCKT)
pins: 1 OFFSET ADJUST, 2 -IN (in), 3 +IN (in), 4 V- (power), 6 OUT (out), 7 V+ (power), 8 OFFSET ADJUST

## OP07
designator U?
Precision Operational Amplifier; 1.库作者: 冰凌猫; 2.库版本: v2.0 (2021.03.30); 3.交流分享: Q群514746572,开源更新,欢迎一起交流学习PCB设计; 4.作者声明: 旨为整合最全库集,欢迎转载,禁止商用！-冰凌猫; 5.备注说明: 该库已二次整合过网上各热销库,基本最全,无需重复搜购安装
footprint DIP-8
footprint DIP8
simulation model OP07 (SUBCKT)
pins: 1 TRIM, 2 -IN (in), 3 +IN (in), 4 V- (power), 6 OUT (out), 7 V+ (power), 8 TRIM

## OP07A
designator U?
Precision Operational Amplifier; 1.库作者: 冰凌猫; 2.库版本: v2.0 (2021.03.30); 3.交流分享: Q群514746572,开源更新,欢迎一起交流学习PCB设计; 4.作者声明: 旨为整合最全库集,欢迎转载,禁止商用！-冰凌猫; 5.备注说明: 该库已二次整合过网上各热销库,基本最全,无需重复搜购安装
footprint DIP-8
footprint DIP8
simulation model OP07A (SUBCKT)
pins: 1 TRIM, 2 -IN (in), 3 +IN (in), 4 V- (power), 6 OUT (out), 7 V+ (power), 8 TRIM

## OP07C
designator U?
Precision Operational Amplifier; 1.库作者: 冰凌猫; 2.库版本: v2.0 (2021.03.30); 3.交流分享: Q群514746572,开源更新,欢迎一起交流学习PCB设计; 4.作者声明: 旨为整合最全库集,欢迎转载,禁止商用！-冰凌猫; 5.备注说明: 该库已二次整合过网上各热销库,基本最全,无需重复搜购安装
footprint DIP-8
footprint DIP8
simulation model OP07C (SUBCKT)
pins: 1 TRIM, 2 -IN (in), 3 +IN (in), 4 V- (power), 6 OUT (out), 7 V+ (power), 8 TRIM

## OP07CS8
designator U?
Precision Operational Amplifier; 1.库作者: 冰凌猫; 2.库版本: v2.0 (2021.03.30); 3.交流分享: Q群514746572,开源更新,欢迎一起交流学习PCB设计; 4.作者声明: 旨为整合最全库集,欢迎转载,禁止商用！-冰凌猫; 5.备注说明: 该库已二次整合过网上各热销库,基本最全,无需重复搜购安装
footprint DIP-8
footprint DIP8
simulation model OP07CS8 (SUBCKT)
pins: 1 TRIM, 2 -IN (in), 3 +IN (in), 4 V- (power), 6 OUT (out), 7 V+ (power), 8 TRIM

## OP07E
designator U?
Precision Operational Amplifier; 1.库作者: 冰凌猫; 2.库版本: v2.0 (2021.03.30); 3.交流分享: Q群514746572,开源更新,欢迎一起交流学习PCB设计; 4.作者声明: 旨为整合最全库集,欢迎转载,禁止商用！-冰凌猫; 5.备注说明: 该库已二次整合过网上各热销库,基本最全,无需重复搜购安装
footprint DIP-8
footprint DIP8
simulation model OP07E (SUBCKT)
pins: 1 TRIM, 2 -IN (in), 3 +IN (in), 4 V- (power), 6 OUT (out), 7 V+ (power), 8 TRIM

## OP15A
designator U?
Precision, High Speed JFET-Input Operational Amplifier; 1.库作者: 冰凌猫; 2.库版本: v2.0 (2021.03.30); 3.交流分享: Q群514746572,开源更新,欢迎一起交流学习PCB设计; 4.作者声明: 旨为整合最全库集,欢迎转载,禁止商用！-冰凌猫; 5.备注说明: 该库已二次整合过网上各热销库,基本最全,无需重复搜购安装
simulation model OP15A (SUBCKT)
pins: 1 TRIM, 2 -IN (in), 3 +IN (in), 4 V- (power), 5 TRIM, 6 OUT (out), 7 V+ (power)

## OP15B
designator U?
Precision, High Speed JFET-Input Operational Amplifier; 1.库作者: 冰凌猫; 2.库版本: v2.0 (2021.03.30); 3.交流分享: Q群514746572,开源更新,欢迎一起交流学习PCB设计; 4.作者声明: 旨为整合最全库集,欢迎转载,禁止商用！-冰凌猫; 5.备注说明: 该库已二次整合过网上各热销库,基本最全,无需重复搜购安装
simulation model OP15B (SUBCKT)
pins: 1 TRIM, 2 -IN (in), 3 +IN (in), 4 V- (power), 5 TRIM, 6 OUT (out), 7 V+ (power)

## OP15C
designator U?
Precision, High Speed JFET-Input Operational Amplifier; 1.库作者: 冰凌猫; 2.库版本: v2.0 (2021.03.30); 3.交流分享: Q群514746572,开源更新,欢迎一起交流学习PCB设计; 4.作者声明: 旨为整合最全库集,欢迎转载,禁止商用！-冰凌猫; 5.备注说明: 该库已二次整合过网上各热销库,基本最全,无需重复搜购安装
simulation model OP15C (SUBCKT)
pins: 1 TRIM, 2 -IN (in), 3 +IN (in), 4 V- (power), 5 TRIM, 6 OUT (out), 7 V+ (power)

## OP15E
designator U?
Precision, High Speed JFET-Input Operational Amplifier; 1.库作者: 冰凌猫; 2.库版本: v2.0 (2021.03.30); 3.交流分享: Q群514746572,开源更新,欢迎一起交流学习PCB设计; 4.作者声明: 旨为整合最全库集,欢迎转载,禁止商用！-冰凌猫; 5.备注说明: 该库已二次整合过网上各热销库,基本最全,无需重复搜购安装
simulation model OP15E (SUBCKT)
pins: 1 TRIM, 2 -IN (in), 3 +IN (in), 4 V- (power), 5 TRIM, 6 OUT (out), 7 V+ (power)

## OP15F
designator U?
Precision, High Speed JFET-Input Operational Amplifier; 1.库作者: 冰凌猫; 2.库版本: v2.0 (2021.03.30); 3.交流分享: Q群514746572,开源更新,欢迎一起交流学习PCB设计; 4.作者声明: 旨为整合最全库集,欢迎转载,禁止商用！-冰凌猫; 5.备注说明: 该库已二次整合过网上各热销库,基本最全,无需重复搜购安装
simulation model OP15F (SUBCKT)
pins: 1 TRIM, 2 -IN (in), 3 +IN (in), 4 V- (power), 5 TRIM, 6 OUT (out), 7 V+ (power)

## OP15G
designator U?
Precision, High Speed JFET-Input Operational Amplifier; 1.库作者: 冰凌猫; 2.库版本: v2.0 (2021.03.30); 3.交流分享: Q群514746572,开源更新,欢迎一起交流学习PCB设计; 4.作者声明: 旨为整合最全库集,欢迎转载,禁止商用！-冰凌猫; 5.备注说明: 该库已二次整合过网上各热销库,基本最全,无需重复搜购安装
simulation model OP15G (SUBCKT)
pins: 1 TRIM, 2 -IN (in), 3 +IN (in), 4 V- (power), 5 TRIM, 6 OUT (out), 7 V+ (power)

## OP16A
designator U?
Precision, High Speed JFET-Input Operational Amplifier; 1.库作者: 冰凌猫; 2.库版本: v2.0 (2021.03.30); 3.交流分享: Q群514746572,开源更新,欢迎一起交流学习PCB设计; 4.作者声明: 旨为整合最全库集,欢迎转载,禁止商用！-冰凌猫; 5.备注说明: 该库已二次整合过网上各热销库,基本最全,无需重复搜购安装
simulation model OP16A (SUBCKT)
pins: 1 TRIM, 2 -IN (in), 3 +IN (in), 4 V- (power), 5 TRIM, 6 OUT (out), 7 V+ (power)

## OP16B
designator U?
Precision, High Speed JFET-Input Operational Amplifier; 1.库作者: 冰凌猫; 2.库版本: v2.0 (2021.03.30); 3.交流分享: Q群514746572,开源更新,欢迎一起交流学习PCB设计; 4.作者声明: 旨为整合最全库集,欢迎转载,禁止商用！-冰凌猫; 5.备注说明: 该库已二次整合过网上各热销库,基本最全,无需重复搜购安装
simulation model OP16B (SUBCKT)
pins: 1 TRIM, 2 -IN (in), 3 +IN (in), 4 V- (power), 5 TRIM, 6 OUT (out), 7 V+ (power)

## OP16C
designator U?
Precision, High Speed JFET-Input Operational Amplifier; 1.库作者: 冰凌猫; 2.库版本: v2.0 (2021.03.30); 3.交流分享: Q群514746572,开源更新,欢迎一起交流学习PCB设计; 4.作者声明: 旨为整合最全库集,欢迎转载,禁止商用！-冰凌猫; 5.备注说明: 该库已二次整合过网上各热销库,基本最全,无需重复搜购安装
simulation model OP16C (SUBCKT)
pins: 1 TRIM, 2 -IN (in), 3 +IN (in), 4 V- (power), 5 TRIM, 6 OUT (out), 7 V+ (power)

## OP16E
designator U?
Precision, High Speed JFET-Input Operational Amplifier; 1.库作者: 冰凌猫; 2.库版本: v2.0 (2021.03.30); 3.交流分享: Q群514746572,开源更新,欢迎一起交流学习PCB设计; 4.作者声明: 旨为整合最全库集,欢迎转载,禁止商用！-冰凌猫; 5.备注说明: 该库已二次整合过网上各热销库,基本最全,无需重复搜购安装
simulation model OP16E (SUBCKT)
pins: 1 TRIM, 2 -IN (in), 3 +IN (in), 4 V- (power), 5 TRIM, 6 OUT (out), 7 V+ (power)

## OP16F
designator U?
Precision, High Speed JFET-Input Operational Amplifier; 1.库作者: 冰凌猫; 2.库版本: v2.0 (2021.03.30); 3.交流分享: Q群514746572,开源更新,欢迎一起交流学习PCB设计; 4.作者声明: 旨为整合最全库集,欢迎转载,禁止商用！-冰凌猫; 5.备注说明: 该库已二次整合过网上各热销库,基本最全,无需重复搜购安装
simulation model OP16F (SUBCKT)
pins: 1 TRIM, 2 -IN (in), 3 +IN (in), 4 V- (power), 5 TRIM, 6 OUT (out), 7 V+ (power)

## OP16G
designator U?
Precision, High Speed JFET-Input Operational Amplifier; 1.库作者: 冰凌猫; 2.库版本: v2.0 (2021.03.30); 3.交流分享: Q群514746572,开源更新,欢迎一起交流学习PCB设计; 4.作者声明: 旨为整合最全库集,欢迎转载,禁止商用！-冰凌猫; 5.备注说明: 该库已二次整合过网上各热销库,基本最全,无需重复搜购安装
simulation model OP16G (SUBCKT)
pins: 1 TRIM, 2 -IN (in), 3 +IN (in), 4 V- (power), 5 TRIM, 6 OUT (out), 7 V+ (power)